# Altium schematic symbol library Библиотека элементов.SchLib: 117 symbols
Pins are listed as number, name and electrical type; pins without a type are passive.

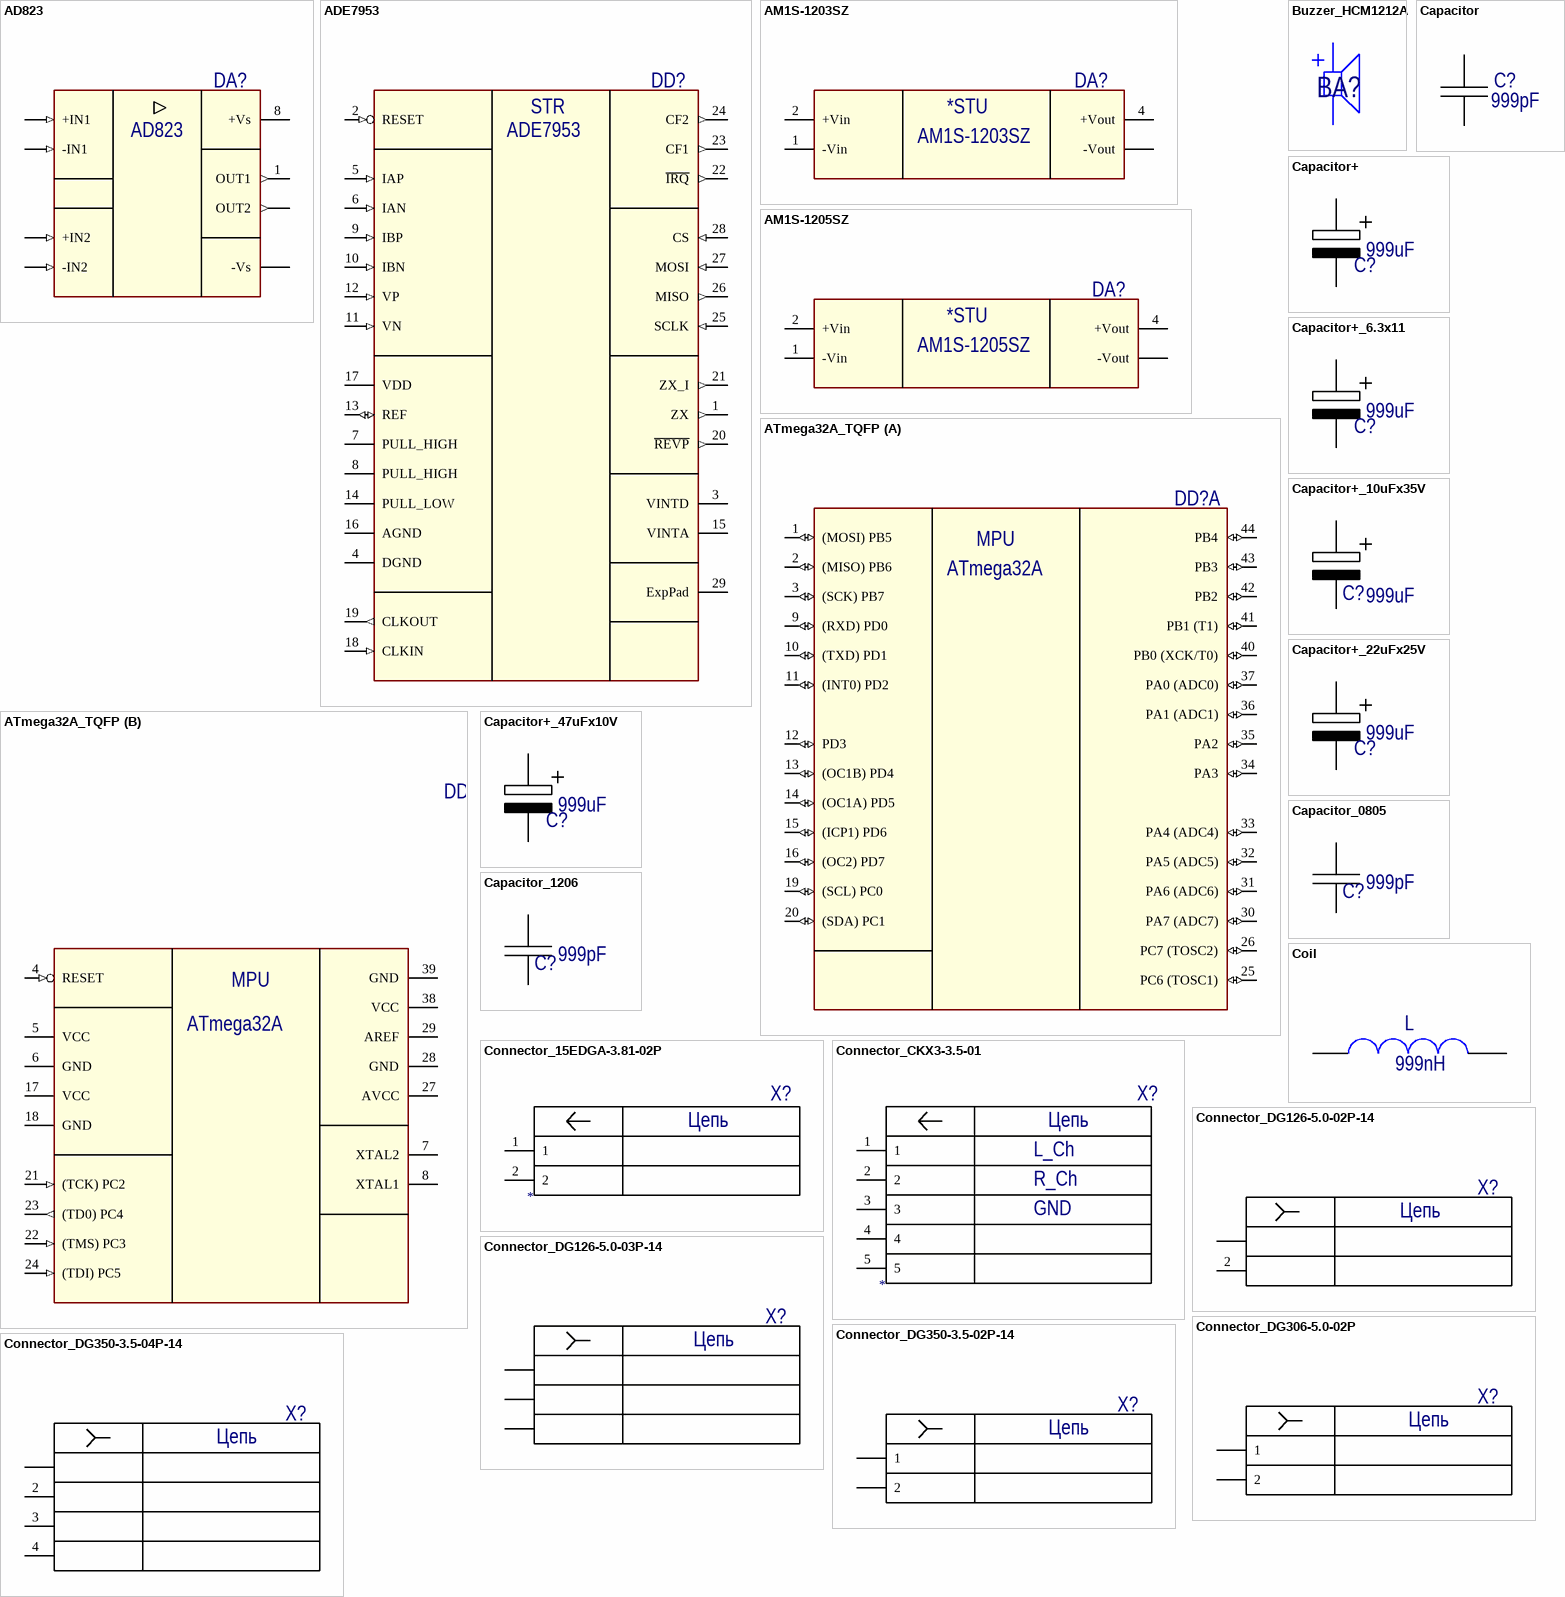
[diagram p0: symbols AD823 to Connector_DG350-3.5-04P-14]

## AD823
designator DA?  (value not drawn)
footprint AD823_SOIC8
pins: 1 OUT1 (out), 2 -IN1 (in), 3 +IN1 (in), 4 -Vs (power), 5 +IN2 (in), 6 -IN2 (in), 7 OUT2 (out), 8 +Vs (power)

## ADE7953
designator DD?  (value not drawn)
footprint PQFN-28 (For ADE7953, pack LFCSP-WQ)
pins: 1 ZX (out), 2 RESET (in), 3 VINTD, 4 DGND (power), 5 IAP (in), 6 IAN (in), 7 PULL_HIGH (power), 8 PULL_HIGH (power), 9 IBP (in), 10 IBN (in), 11 VN (in), 12 VP (in), 13 REF (io), 14 PULL_LOW (power), 15 VINTA, 16 AGND (power), 17 VDD (power), 18 CLKIN (in), 19 CLKOUT (out), 20 ~{REVP} (out), 21 ZX_I (out), 22 ~{IRQ} (out), 23 CF1 (out), 24 CF2 (out), 25 SCLK (in), 26 MISO (out), 27 MOSI (in), 28 CS (in), 29 ExpPad (power)
text: STR

## AM1S-1203SZ
designator DA?  (value not drawn)
DC-DC converter (12V - 3.3V)
footprint AM1S-Z series (DC-DC converter (1 Watt ))
pins: 1 -Vin (power), 2 +Vin (power), 3 -Vout (power), 4 +Vout (power)
1 alternate drawing of the same symbol
text: *STU

## AM1S-1205SZ
designator DA?  (value not drawn)
DC-DC converter (12V - 5.0V)
footprint AM1S-Z series (DC-DC converter (1 Watt ))
pins: 1 -Vin (power), 2 +Vin (power), 3 -Vout (power), 4 +Vout (power)
1 alternate drawing of the same symbol
text: *STU

## ATmega32A_TQFP
designator DD?  (value not drawn)
footprint ATmega32A_TQFP44
part A pins: 1 (MOSI) PB5 (io), 2 (MISO) PB6 (io), 3 (SCK) PB7 (io), 9 (RXD) PD0 (io), 10 (TXD) PD1 (io), 11 (INT0) PD2 (io), 12 PD3 (io), 13 (OC1B) PD4 (io), 14 (OC1A) PD5 (io), 15 (ICP1) PD6 (io), 16 (OC2) PD7 (io), 19 (SCL) PC0 (io), 20 (SDA) PC1 (io), 25 PC6 (TOSC1) (io), 26 PC7 (TOSC2) (io), 30 PA7 (ADC7) (io), 31 PA6 (ADC6) (io), 32 PA5 (ADC5) (io), 33 PA4 (ADC4) (io), 34 PA3 (io), 35 PA2 (io), 36 PA1 (ADC1) (io), 37 PA0 (ADC0) (io), 40 PB0 (XCK/T0) (io), 41 PB1 (T1) (io), 42 PB2 (io), 43 PB3 (io), 44 PB4 (io)
part B pins: 4 RESET (in), 5 VCC (power), 6 GND (power), 7 XTAL2, 8 XTAL1, 17 VCC (power), 18 GND (power), 21 (TCK) PC2 (in), 22 (TMS) PC3 (in), 23 (TD0) PC4 (out), 24 (TDI) PC5 (in), 27 AVCC (power), 28 GND (power), 29 AREF (power), 38 VCC (power), 39 GND (power)
part A text: MPU; ATmega32A
part B text: MPU; ATmega32A

## Buzzer_HCM1212A
designator BA?  (value not drawn)
footprint Buzzer_HCM1212A
pins: 1, 2

## Capacitor
designator C?, comment 999pF
footprint Capacitor_0805
pins: 1, 2

## Capacitor+
designator C?, comment 999uF
pins: 1, 2

## Capacitor+_6.3x11
designator C?, comment 999uF
footprint Capacitor_Electrolit_6.3x11
pins: 1, 2

## Capacitor+_10uFx35V
designator С?, comment 999uF
footprint Capacitor+_10uFx35V
pins: 1, 2

## Capacitor+_22uFx25V
designator C?, comment 999uF
footprint CAPACITOR+_22uFx25V
pins: 1, 2

## Capacitor+_47uFx10V
designator C?, comment 999uF
footprint CAPACITOR+_47uFx10V
pins: 1, 2

## Capacitor_0805
designator C?, comment 999pF
footprint Capacitor_0805
pins: 1, 2

## Capacitor_1206
designator C?, comment 999pF
footprint CAPACITOR_1206 (Chip Capacitor, 2-Leads, Body 3,10x1,60mm, IPC Medium Density)
pins: 1, 2

## Coil
designator L, comment 999nH
pins: 1, 2

## Connector_15EDGA-3.81-02P
designator X?
footprint CONNECTOR_15EDGA-3.81-02P
pins: 1, 2
text: Цепь

## Connector_CKX3-3.5-01
designator X?
footprint Connector_CKX3-3.5-01 (Audio Jack 3.5mm)
pins: 1, 2, 3, 4, 5
text: Цепь; L_Ch; R_Ch; GND

## Connector_DG126-5.0-02P-14
designator X?  (value not drawn)
footprint Connector_DG126-02P-14
pins: 1, 2
text: Цепь

## Connector_DG126-5.0-03P-14
designator X?, comment DG126-5.0-03P-14  (value not drawn)
footprint Connector_DG126-03P-14
pins: 1, 2, 3
text: Цепь

## Connector_DG306-5.0-02P
designator X?  (value not drawn)
footprint CONNECTOR_DG306-5.0-02P
pins: 1, 2
text: Цепь

## Connector_DG350-3.5-02P-14
designator X?  (value not drawn)
footprint CONNECTOR_DG350-3.5-02P-14
pins: 1, 2
text: Цепь

## Connector_DG350-3.5-04P-14
designator X?, comment DG350-3.5-04P-14  (value not drawn)
footprint CONNECTOR_DG350-3.5-04P-14
pins: 1, 2, 3, 4
text: Цепь

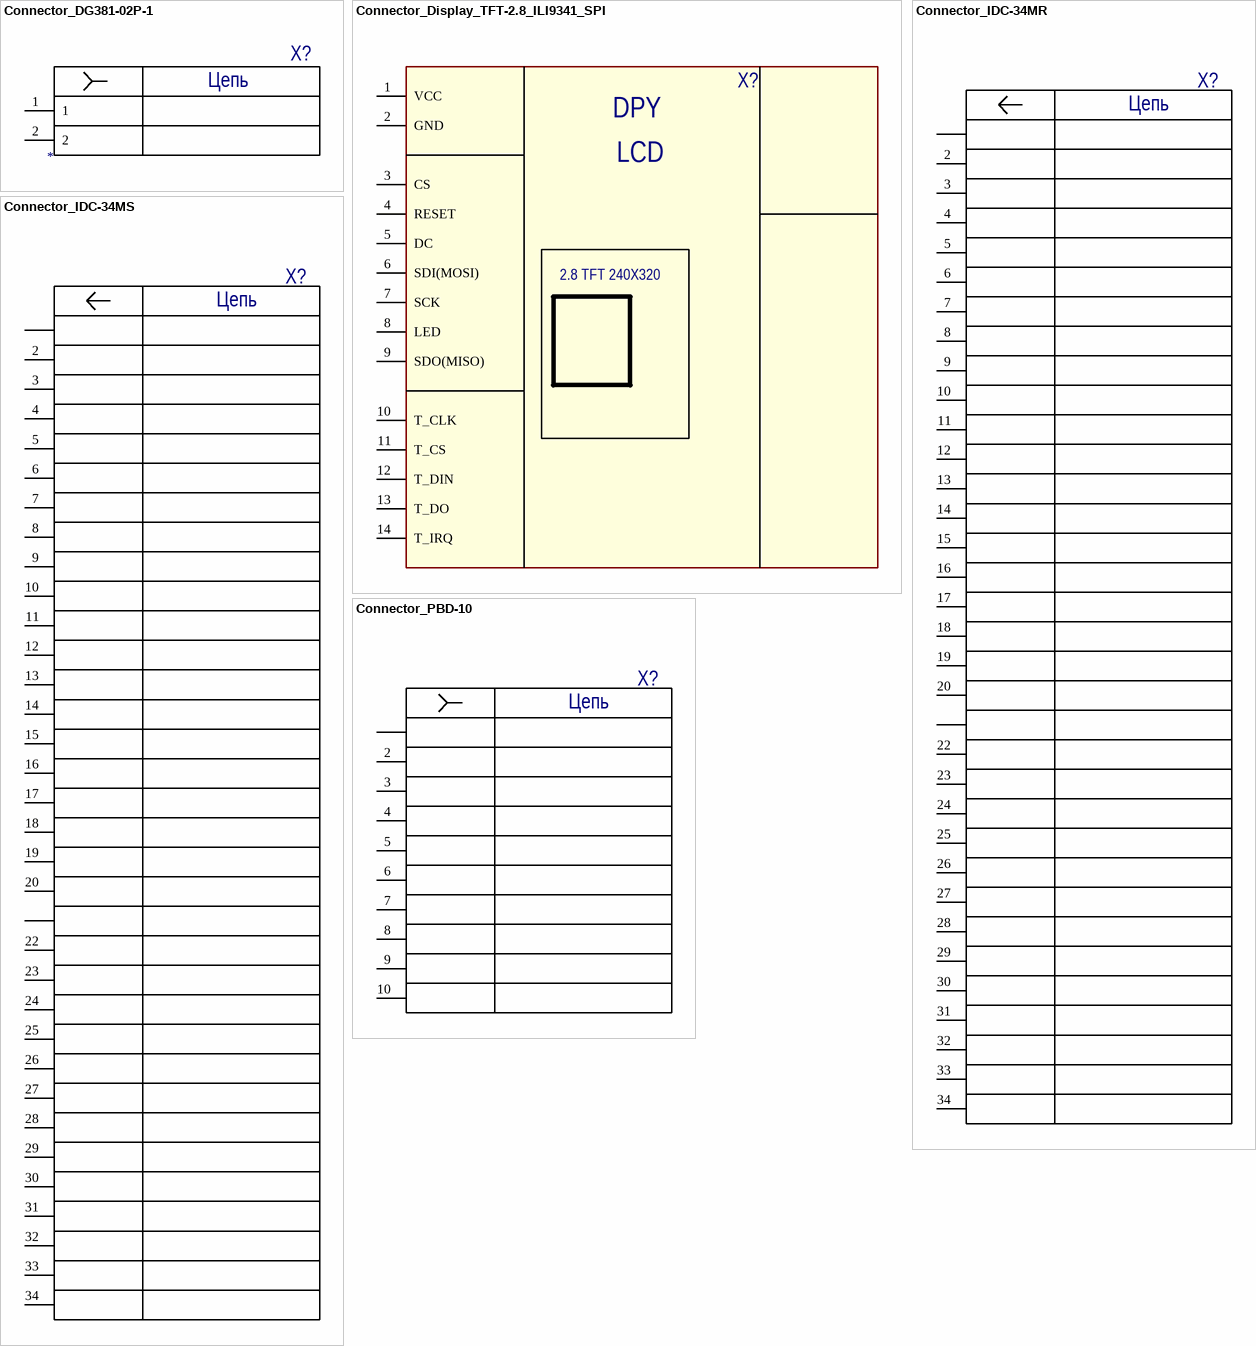
[diagram p1: symbols Connector_DG381-02P-1 to Connector_PBD-10]

## Connector_DG381-02P-1
designator X?
footprint CONNECTOR_DG381-02P-1
pins: 1, 2
text: Цепь

## Connector_Display_TFT-2.8_ILI9341_SPI
designator X?, comment DPY  (value not drawn)
footprint CONNECTOR_PBS-14
pins: 1 VCC, 2 GND, 3 CS, 4 RESET, 5 DC, 6 SDI(MOSI), 7 SCK, 8 LED, 9 SDO(MISO), 10 T_CLK, 11 T_CS, 12 T_DIN, 13 T_DO, 14 T_IRQ
text: LCD; 2.8 TFT 240X320

## Connector_IDC-34MR
designator X?  (value not drawn)
footprint CONNECTOR_IDC-34
pins: 1, 2, 3, 4, 5, 6, 7, 8, 9, 10, 11, 12, 13, 14, 15, 16, 17, 18, 19, 20, 21, 22, 23, 24, 25, 26, 27, 28, 29, 30, 31, 32, 33, 34
text: Цепь

## Connector_IDC-34MS
designator X?  (value not drawn)
footprint CONNECTOR_IDC-34MS
pins: 1, 2, 3, 4, 5, 6, 7, 8, 9, 10, 11, 12, 13, 14, 15, 16, 17, 18, 19, 20, 21, 22, 23, 24, 25, 26, 27, 28, 29, 30, 31, 32, 33, 34
text: Цепь

## Connector_PBD-10
designator X?  (value not drawn)
footprint CONNECTOR_PBD-10
pins: 1, 2, 3, 4, 5, 6, 7, 8, 9, 10
text: Цепь

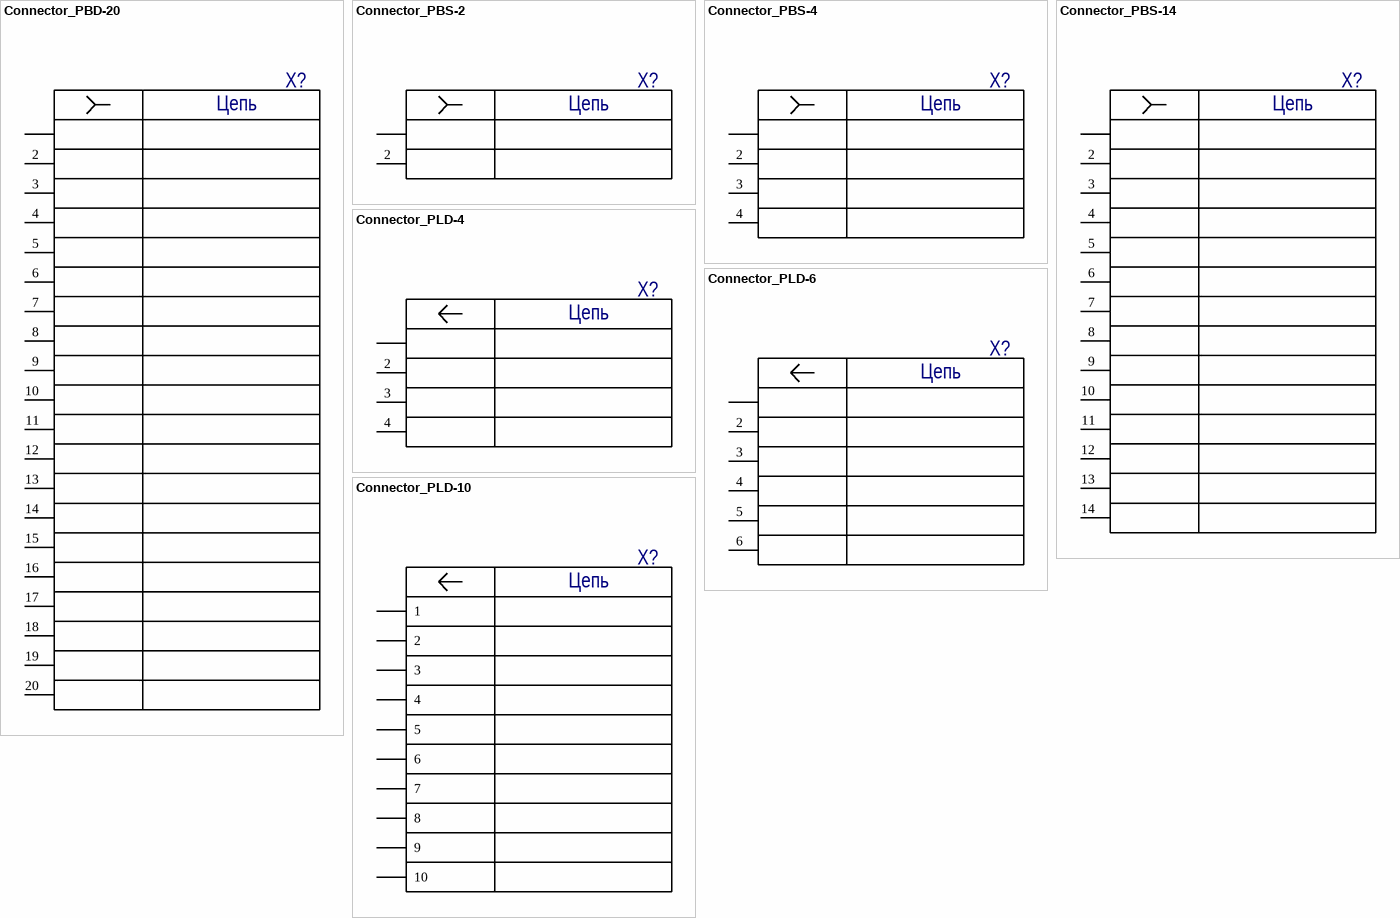
[diagram p2: symbols Connector_PBD-20 to Connector_PLD-10]

## Connector_PBD-20
designator X?  (value not drawn)
footprint CONNECTOR_PBD-20
pins: 1, 2, 3, 4, 5, 6, 7, 8, 9, 10, 11, 12, 13, 14, 15, 16, 17, 18, 19, 20
text: Цепь

## Connector_PBS-2
designator X?  (value not drawn)
footprint CONNECTOR_PBS-2
pins: 1, 2
text: Цепь

## Connector_PBS-4
designator X?  (value not drawn)
footprint CONNECTOR_PBS-4
pins: 1, 2, 3, 4
text: Цепь

## Connector_PBS-14
designator X?  (value not drawn)
footprint CONNECTOR_PBS-14
pins: 1, 2, 3, 4, 5, 6, 7, 8, 9, 10, 11, 12, 13, 14
text: Цепь

## Connector_PLD-4
designator X?  (value not drawn)
footprint CONNECTOR_PLD-4
pins: 1, 2, 3, 4
text: Цепь

## Connector_PLD-6
designator X?  (value not drawn)
footprint CONNECTOR_PLD-6
pins: 1, 2, 3, 4, 5, 6
text: Цепь

## Connector_PLD-10
designator X?  (value not drawn)
footprint CONNECTOR_PLD-10
pins: 1, 2, 3, 4, 5, 6, 7, 8, 9, 10
text: Цепь

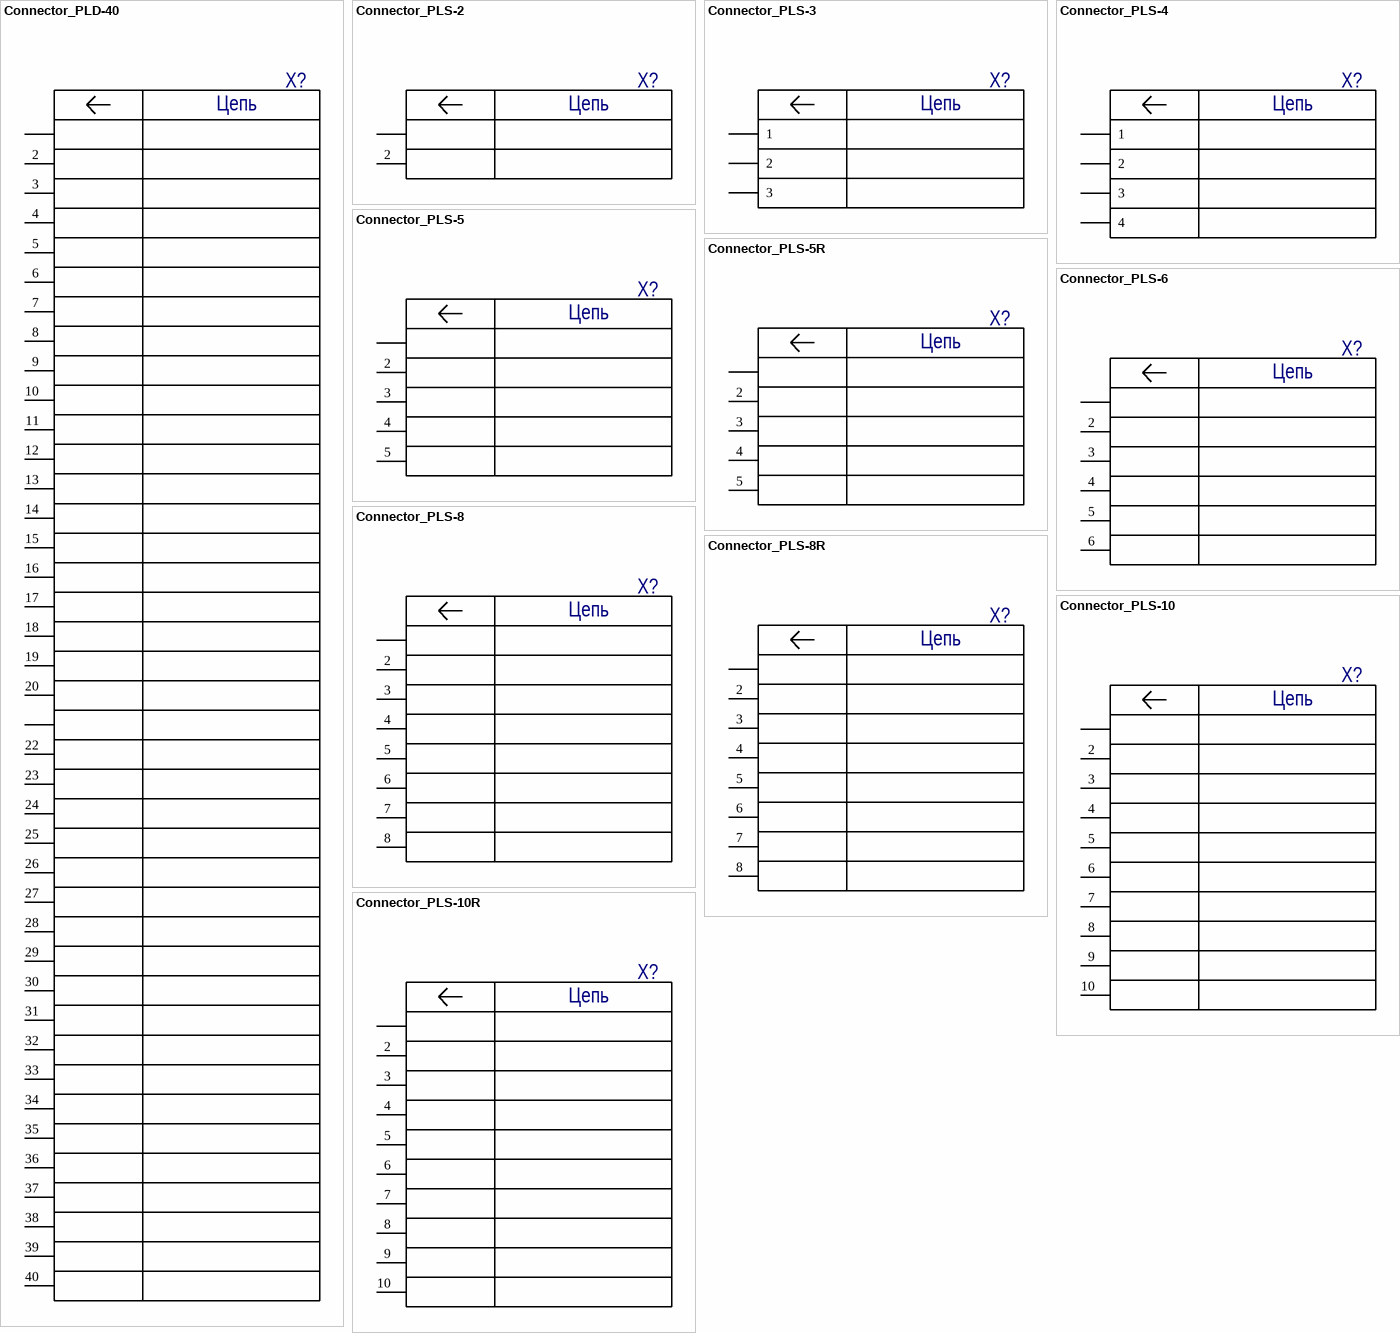
[diagram p3: symbols Connector_PLD-40 to Connector_PLS-10R]

## Connector_PLD-40
designator X?  (value not drawn)
footprint CONNECTOR_PLD-40
pins: 1, 2, 3, 4, 5, 6, 7, 8, 9, 10, 11, 12, 13, 14, 15, 16, 17, 18, 19, 20, 21, 22, 23, 24, 25, 26, 27, 28, 29, 30, 31, 32, 33, 34, 35, 36, 37, 38, 39, 40
text: Цепь

## Connector_PLS-2
designator X?  (value not drawn)
footprint CONNECTOR_PLS-2
pins: 1, 2
text: Цепь

## Connector_PLS-3
designator X?  (value not drawn)
footprint CONNECTOR_PLS-3
pins: 1, 2, 3
text: Цепь

## Connector_PLS-4
designator X?  (value not drawn)
footprint CONNECTOR_PLS-4
pins: 1, 2, 3, 4
text: Цепь

## Connector_PLS-5
designator X?  (value not drawn)
footprint CONNECTOR_PLS-5
pins: 1, 2, 3, 4, 5
text: Цепь

## Connector_PLS-5R
designator X?  (value not drawn)
footprint CONNECTOR_PLS-5R
pins: 1, 2, 3, 4, 5
text: Цепь

## Connector_PLS-6
designator X?  (value not drawn)
footprint CONNECTOR_PLS-6
pins: 1, 2, 3, 4, 5, 6
text: Цепь

## Connector_PLS-8
designator X?  (value not drawn)
footprint CONNECTOR_PLS-8
pins: 1, 2, 3, 4, 5, 6, 7, 8
text: Цепь

## Connector_PLS-8R
designator X?  (value not drawn)
footprint CONNECTOR_PLS-8
pins: 1, 2, 3, 4, 5, 6, 7, 8
text: Цепь

## Connector_PLS-10
designator X?  (value not drawn)
footprint CONNECTOR_PLS-10
pins: 1, 2, 3, 4, 5, 6, 7, 8, 9, 10
text: Цепь

## Connector_PLS-10R
designator X?  (value not drawn)
footprint CONNECTOR_PLS-10
pins: 1, 2, 3, 4, 5, 6, 7, 8, 9, 10
text: Цепь

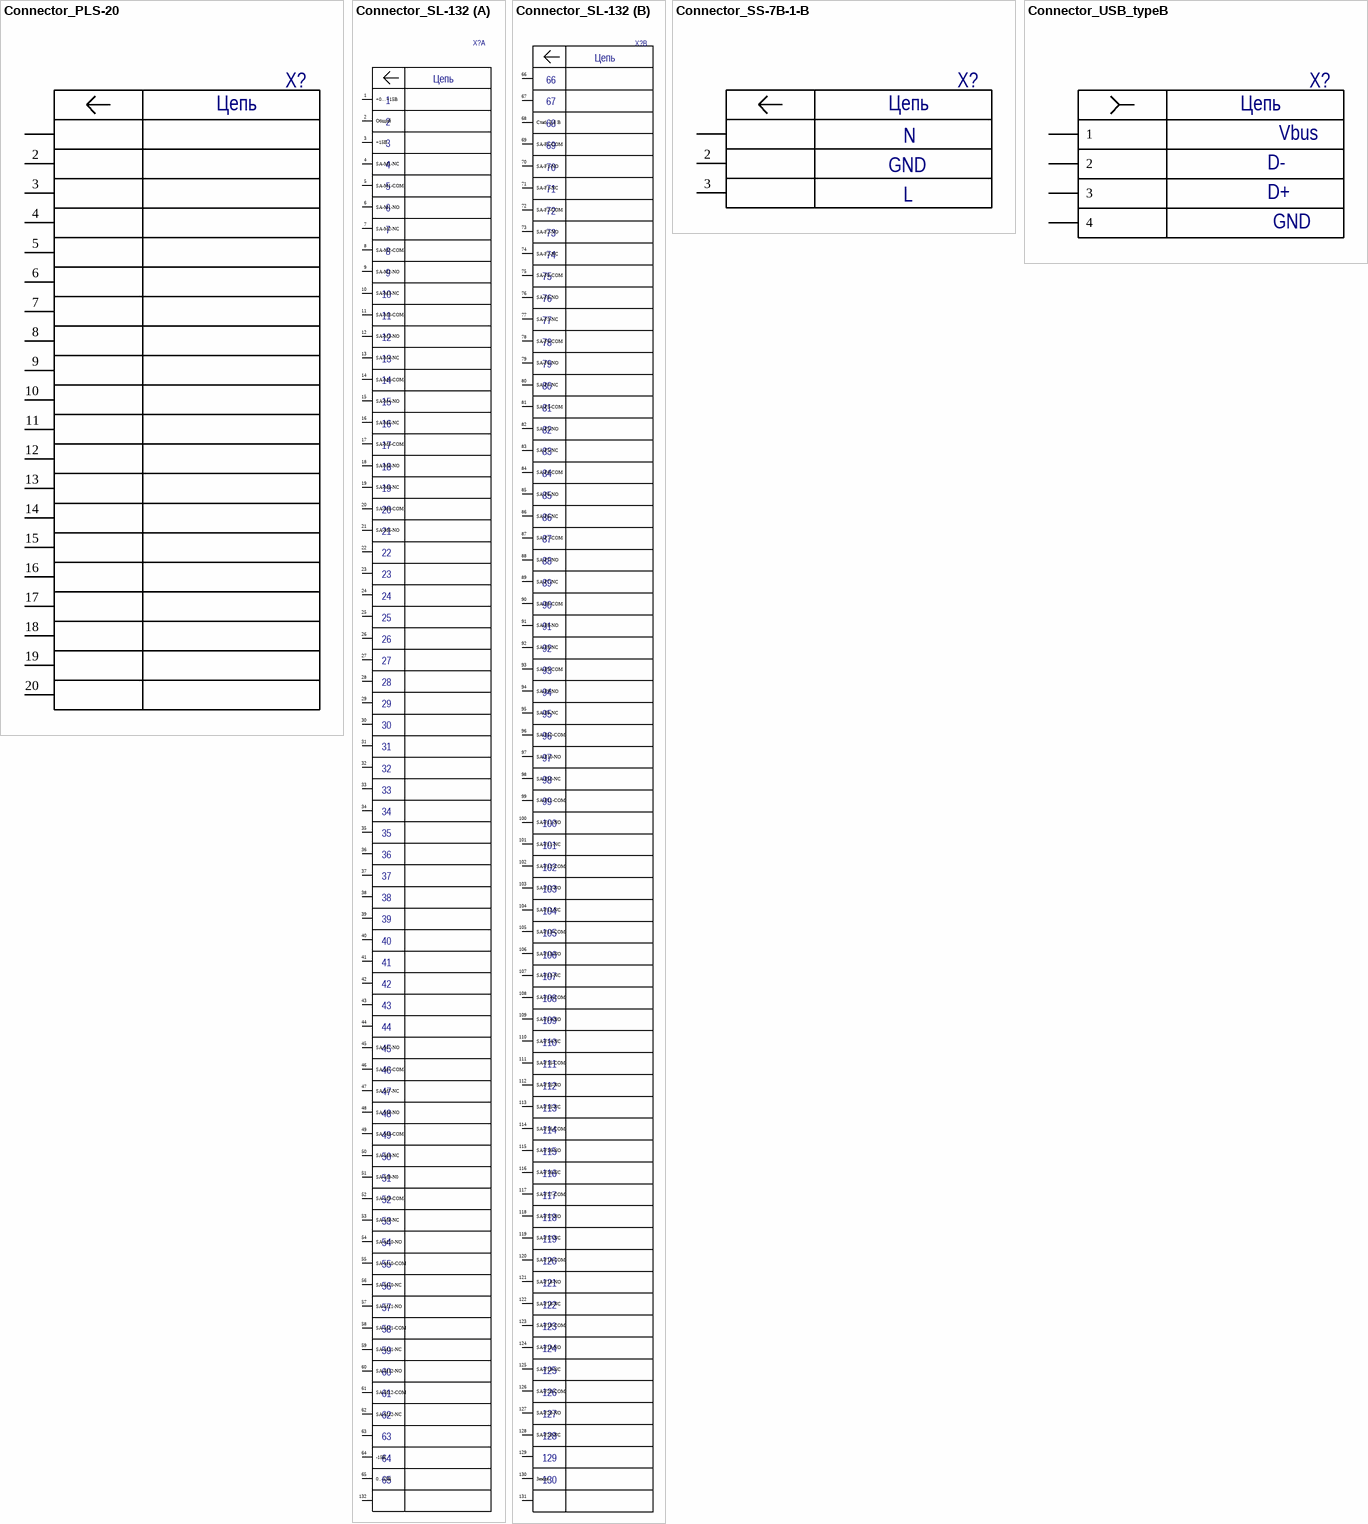
[diagram p4: symbols Connector_PLS-20 to Connector_USB_typeB]

## Connector_PLS-20
designator X?  (value not drawn)
footprint CONNECTOR_PLS-20
pins: 1, 2, 3, 4, 5, 6, 7, 8, 9, 10, 11, 12, 13, 14, 15, 16, 17, 18, 19, 20
text: Цепь

## Connector_SL-132
designator X?  (value not drawn)
footprint Connector_SL-132
part A pins: 1 +0…+15В, 2 Общий, 3 +15В, 4 SA-M1-NC, 5 SA-M1-COM, 6 SA-M1-NO, 7 SA-M2-NC, 8 SA-M2-COM, 9 SA-M2-NO, 10 SA-M3-NC, 11 SA-M3-COM, 12 SA-M3-NO, 13 SA-M4-NC, 14 SA-M4-COM, 15 SA-M4-NO, 16 SA-M5-NC, 17 SA-M5-COM, 18 SA-M5-NO, 19 SA-M6-NC, 20 SA-M6-COM, 21 SA-M6-NO, 22, 23, 24, 25, 26, 27, 28, 29, 30, 31, 32, 33, 34, 35, 36, 37, 38, 39, 40, 41, 42, 43, 44, 45 SA-M7-NO, 46 SA-M7-COM, 47 SA-M7-NC, 48 SA-M8-NO, 49 SA-M8-COM, 50 SA-M8-NC, 51 SA-M9-N0, 52 SA-M9-COM, 53 SA-M9-NC, 54 SA-M10-NO, 55 SA-M10-COM, 56 SA-M10-NC, 57 SA-M11-NO, 58 SA-M11-COM, 59 SA-M11-NC, 60 SA-M12-NO, 61 SA-M12-COM, 62 SA-M12-NC, 63, 64 -15В, 65 0..-15В, 132
part B pins: 66 1, 67 2, 68 Стаб. 5,6 В, 69 SA-F1-COM, 70 SA-F1-NO, 71 SA-F1-NC, 72 SA-F2-COM, 73 SA-F2-NO, 74 SA-F2-NC, 75 SA-F3-COM, 76 SA-F3-NO, 77 SA-F3-NC, 78 SA-F4-COM, 79 SA-F4-NO, 80 SA-F4-NC, 81 SA-F5-COM, 82 SA-F5-NO, 83 SA-F5-NC, 84 SA-F6-COM, 85 SA-F6-NO, 86 SA-F6-NC, 87 SA-F7-COM, 88 SA-F7-NO, 89 SA-F7-NC, 90 SA-F8-COM, 91 SA-F8-NO, 92 SA-F8-NC, 93 SA-F9-COM, 94 SA-F9-NO, 95 SA-F9-NC, 96 SA-F10-COM, 97 SA-F10-NO, 98 SA-F10-NC, 99 SA-F11-COM, 100 SA-F11-NO, 101 SA-F11-NC, 102 SA-F12-COM, 103 SA-F12-NO, 104 SA-F12-NC, 105 SA-F13-COM, 106 SA-F13-NO, 107 SA-F13-NC, 108 SA-F14-COM, 109 SA-F14-NO, 110 SA-F14-NC, 111 SA-F15-COM, 112 SA-F15-NO, 113 SA-F15-NC, 114 SA-F16-COM, 115 SA-F16-NO, 116 SA-F16-NC, 117 SA-F17-COM, 118 SA-F17-NO, 119 SA-F17-NC, 120 SA-F18-COM, 121 SA-F18-NO, 122 SA-F18-NC, 123 SA-F19-COM, 124 SA-F19-NO, 125 SA-F19-NC, 126 SA-F20-COM, 127 SA-F20-NO, 128 SA-F20-NC, 129, 130 Земля, 131
part A text: Цепь
part B text: Цепь

## Connector_SS-7B-1-B
designator X?  (value not drawn)
footprint Connector_SS-7B-1-B
pins: 1, 2, 3
text: Цепь; N; GND; L

## Connector_USB_typeB
designator X?  (value not drawn)
footprint Connector_USB_B
pins: 1, 2, 3, 4
text: Цепь; Vbus; D-; D+; GND

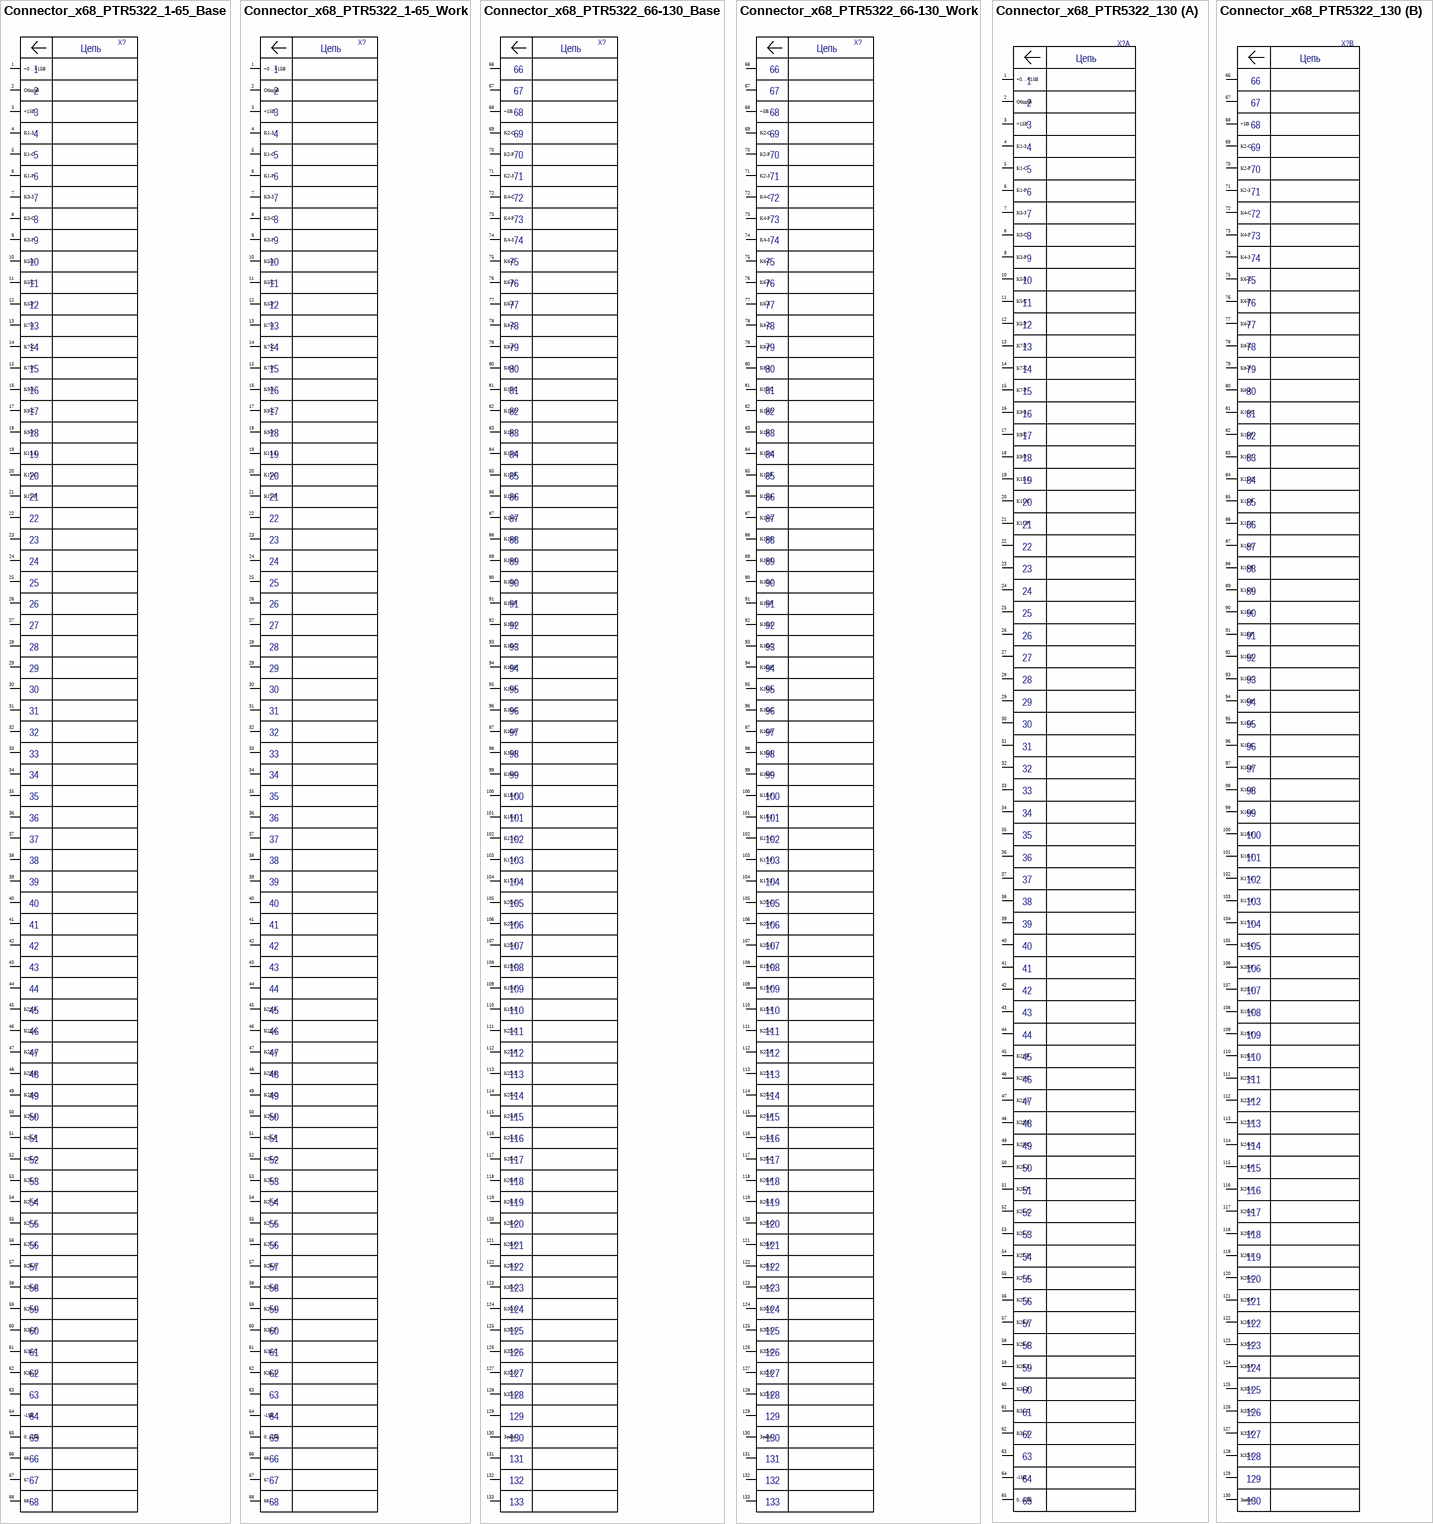
[diagram p5: symbols Connector_x68_PTR5322_1-65_Base to Connector_x68_PTR5322_130]

## Connector_x68_PTR5322_1-65_Base
designator X?  (value not drawn)
footprint Connector_Padsx68_PTR5322_1-65_BASE
pins: 1 +0…+15В, 2 Общий, 3 +15В, 4 К1-З, 5 К1-С, 6 К1-Р, 7 К3-З, 8 К3-С, 9 К3-Р, 10 К5-З, 11 К5-С, 12 К5-Р, 13 К7-З, 14 К7-С, 15 К7-Р, 16 К9-З, 17 К9-С, 18 К9-Р, 19 К11-З, 20 К11-С, 21 К11-Р, 22, 23, 24, 25, 26, 27, 28, 29, 30, 31, 32, 33, 34, 35, 36, 37, 38, 39, 40, 41, 42, 43, 44, 45 К21-Р, 46 К21-С, 47 К21-З, 48 К23-Р, 49 К23-С, 50 К23-З, 51 К25-Р, 52 К25-С, 53 К25-З, 54 К27-Р, 55 К27-С, 56 К27-З, 57 К29-Р, 58 К29-C, 59 К29-З, 60 К31-Р, 61 К31-С, 62 К31-З, 63, 64 -15В, 65 0..-15В, 66, 67, 68
text: Цепь

## Connector_x68_PTR5322_1-65_Work
designator X?  (value not drawn)
footprint Connector_Padsx68_PTR5322_1-65_WORK
pins: 1 +0…+15В, 2 Общий, 3 +15В, 4 К1-З, 5 К1-С, 6 К1-Р, 7 К3-З, 8 К3-С, 9 К3-Р, 10 К5-З, 11 К5-С, 12 К5-Р, 13 К7-З, 14 К7-С, 15 К7-Р, 16 К9-З, 17 К9-С, 18 К9-Р, 19 К11-З, 20 К11-С, 21 К11-Р, 22, 23, 24, 25, 26, 27, 28, 29, 30, 31, 32, 33, 34, 35, 36, 37, 38, 39, 40, 41, 42, 43, 44, 45 К21-Р, 46 К21-С, 47 К21-З, 48 К23-Р, 49 К23-С, 50 К23-З, 51 К25-Р, 52 К25-С, 53 К25-З, 54 К27-Р, 55 К27-С, 56 К27-З, 57 К29-Р, 58 К29-C, 59 К29-З, 60 К31-Р, 61 К31-С, 62 К31-З, 63, 64 -15В, 65 0..-15В, 66, 67, 68
text: Цепь

## Connector_x68_PTR5322_66-130_Base
designator X?  (value not drawn)
footprint Connector_Padsx68_PTR5322_66-130_BASE
pins: 66 1, 67 2, 68 +5В, 69 К2-С, 70 К2-Р, 71 К2-З, 72 К4-С, 73 К4-Р, 74 К4-З, 75 К6-С, 76 К6-Р, 77 К6-З, 78 К8-С, 79 К8-Р, 80 К8-З, 81 К10-С, 82 К10-Р, 83 К10-З, 84 К12-С, 85 К12-Р, 86 К12-З, 87 К14-С, 88 К14-Р, 89 К14-З, 90 К13-С, 91 К13-Р, 92 К13-З, 93 К16-С, 94 К16-Р, 95 К16-З, 96 К15-С, 97 К15-Р, 98 К15-З, 99 К18-С, 100 К18-Р, 101 К18-З, 102 К17-С, 103 К17-Р, 104 К17-З, 105 К20-С, 106 К20-Р, 107 К20-З, 108 К19-С, 109 К19-Р, 110 К19-З, 111 К22-С, 112 К22-Р, 113 К22-З, 114 К24-С, 115 К24-Р, 116 К24-З, 117 К26-С, 118 К26-Р, 119 К26-З, 120 К28-С, 121 К28-Р, 122 К28-З, 123 К30-С, 124 К30-Р, 125 К30-З, 126 К32-С, 127 К32-Р, 128 К32-З, 129, 130 Земля, 131, 132, 133
text: Цепь

## Connector_x68_PTR5322_66-130_Work
designator X?  (value not drawn)
footprint Connector_Padsx68_PTR5322_66-130_WORK
pins: 66 1, 67 2, 68 +5В, 69 К2-С, 70 К2-Р, 71 К2-З, 72 К4-С, 73 К4-Р, 74 К4-З, 75 К6-С, 76 К6-Р, 77 К6-З, 78 К8-С, 79 К8-Р, 80 К8-З, 81 К10-С, 82 К10-Р, 83 К10-З, 84 К12-С, 85 К12-Р, 86 К12-З, 87 К14-С, 88 К14-Р, 89 К14-З, 90 К13-С, 91 К13-Р, 92 К13-З, 93 К16-С, 94 К16-Р, 95 К16-З, 96 К15-С, 97 К15-Р, 98 К15-З, 99 К18-С, 100 К18-Р, 101 К18-З, 102 К17-С, 103 К17-Р, 104 К17-З, 105 К20-С, 106 К20-Р, 107 К20-З, 108 К19-С, 109 К19-Р, 110 К19-З, 111 К22-С, 112 К22-Р, 113 К22-З, 114 К24-С, 115 К24-Р, 116 К24-З, 117 К26-С, 118 К26-Р, 119 К26-З, 120 К28-С, 121 К28-Р, 122 К28-З, 123 К30-С, 124 К30-Р, 125 К30-З, 126 К32-С, 127 К32-Р, 128 К32-З, 129, 130 Земля, 131, 132, 133
text: Цепь

## Connector_x68_PTR5322_130
designator X?  (value not drawn)
footprint Connector_Basex130
part A pins: 1 +0…+15В, 2 Общий, 3 +15В, 4 К1-З, 5 К1-С, 6 К1-Р, 7 К3-З, 8 К3-С, 9 К3-Р, 10 К5-З, 11 К5-С, 12 К5-Р, 13 К7-З, 14 К7-С, 15 К7-Р, 16 К9-З, 17 К9-С, 18 К9-Р, 19 К11-З, 20 К11-С, 21 К11-Р, 22, 23, 24, 25, 26, 27, 28, 29, 30, 31, 32, 33, 34, 35, 36, 37, 38, 39, 40, 41, 42, 43, 44, 45 К21-Р, 46 К21-С, 47 К21-З, 48 К23-Р, 49 К23-С, 50 К23-З, 51 К25-Р, 52 К25-С, 53 К25-З, 54 К27-Р, 55 К27-С, 56 К27-З, 57 К29-Р, 58 К29-C, 59 К29-З, 60 К31-Р, 61 К31-С, 62 К31-З, 63, 64 -15В, 65 0..-15В
part B pins: 66 1, 67 2, 68 +5В, 69 К2-С, 70 К2-Р, 71 К2-З, 72 К4-С, 73 К4-Р, 74 К4-З, 75 К6-С, 76 К6-Р, 77 К6-З, 78 К8-С, 79 К8-Р, 80 К8-З, 81 К10-С, 82 К10-Р, 83 К10-З, 84 К12-С, 85 К12-Р, 86 К12-З, 87 К14-С, 88 К14-Р, 89 К14-З, 90 К13-С, 91 К13-Р, 92 К13-З, 93 К16-С, 94 К16-Р, 95 К16-З, 96 К15-С, 97 К15-Р, 98 К15-З, 99 К18-С, 100 К18-Р, 101 К18-З, 102 К17-С, 103 К17-Р, 104 К17-З, 105 К20-С, 106 К20-Р, 107 К20-З, 108 К19-С, 109 К19-Р, 110 К19-З, 111 К22-С, 112 К22-Р, 113 К22-З, 114 К24-С, 115 К24-Р, 116 К24-З, 117 К26-С, 118 К26-Р, 119 К26-З, 120 К28-С, 121 К28-Р, 122 К28-З, 123 К30-С, 124 К30-Р, 125 К30-З, 126 К32-С, 127 К32-Р, 128 К32-З, 129, 130 Земля
part A text: Цепь
part B text: Цепь

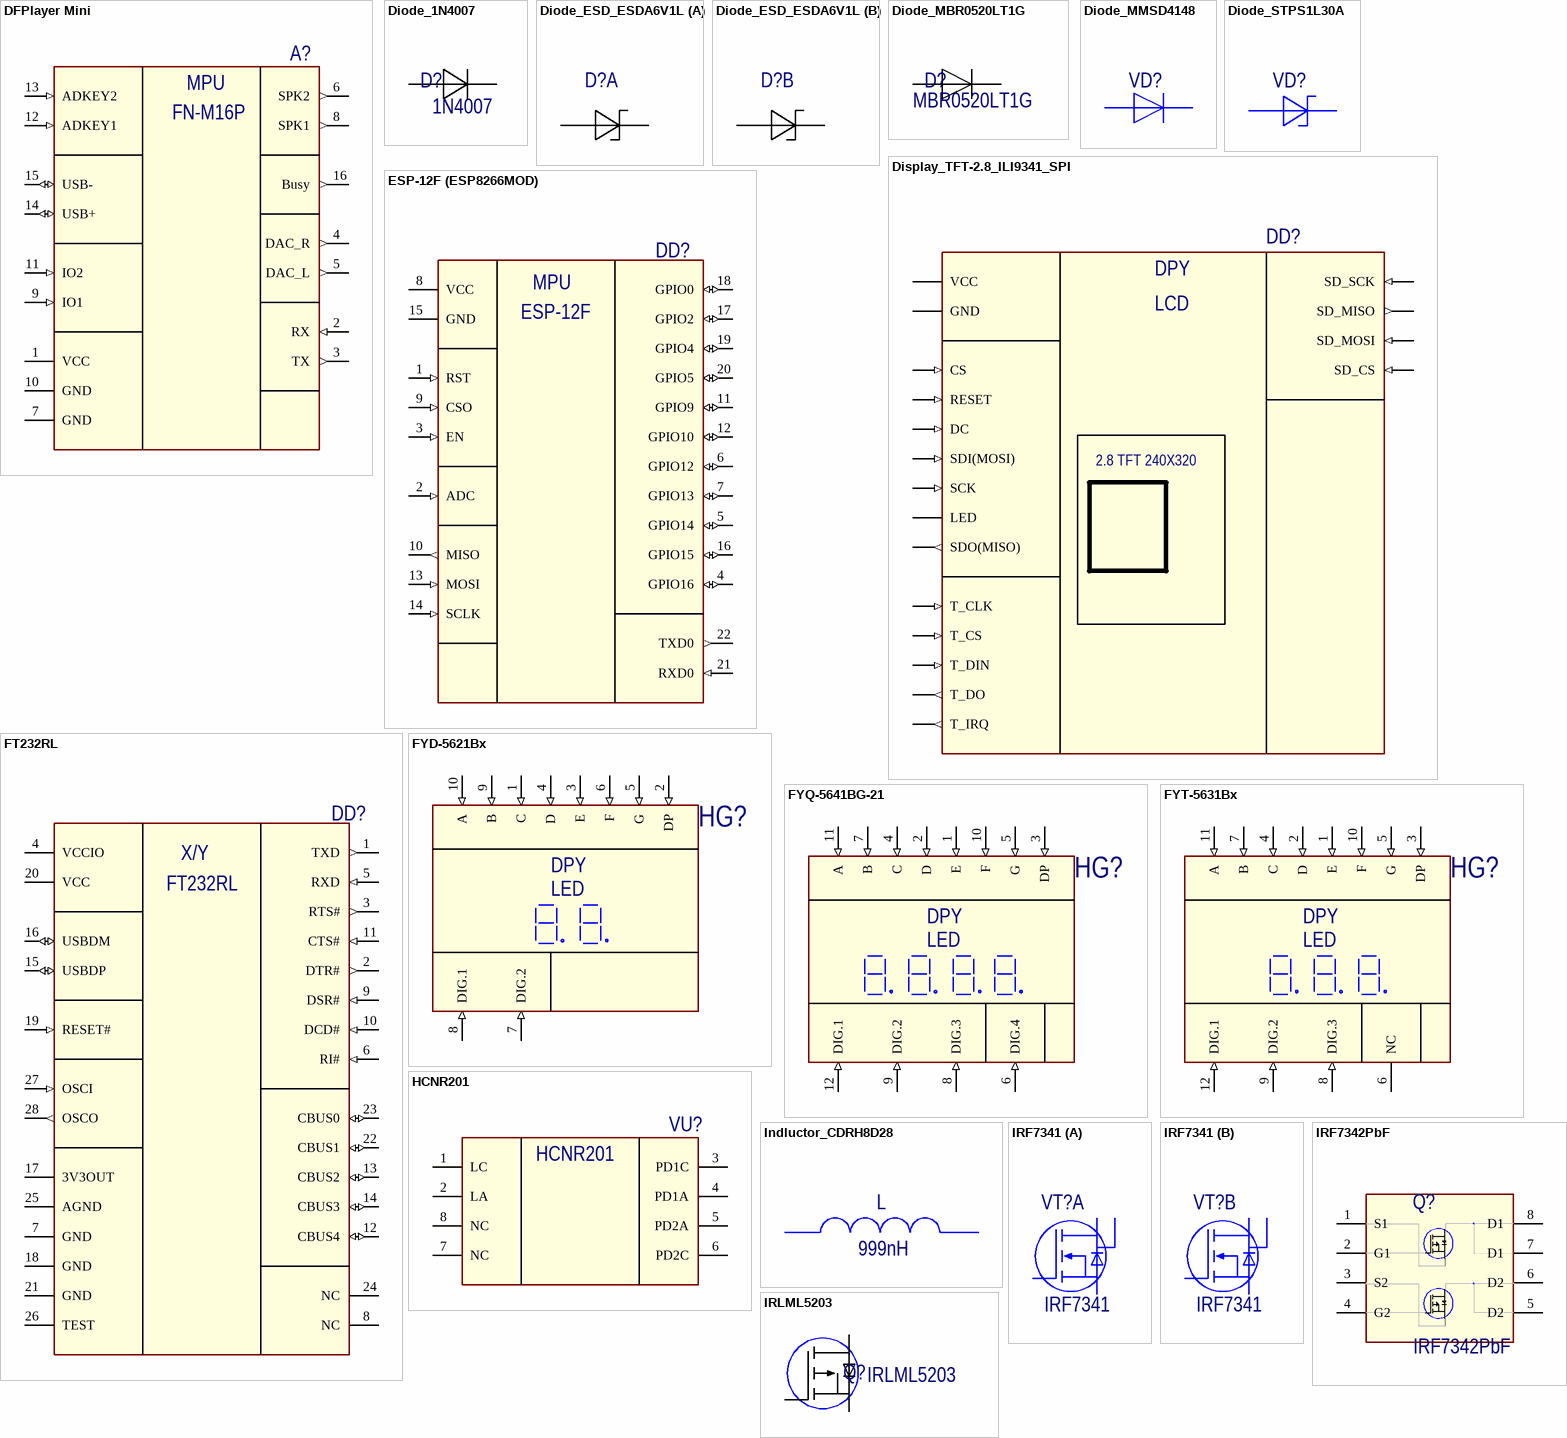
[diagram p6: symbols DFPlayer Mini to IRLML5203]

## DFPlayer Mini
designator A?, comment FN-M16P  (value not drawn)
footprint DFPlayer_Mini_Mp3 (DFPlayer_Mini_Mp3 (FN-M16P))
pins: 1 VCC (power), 2 RX (in), 3 TX (out), 4 DAC_R (out), 5 DAC_L (out), 6 SPK2 (out), 7 GND (power), 8 SPK1 (out), 9 IO1 (in), 10 GND, 11 IO2 (in), 12 ADKEY1 (in), 13 ADKEY2 (in), 14 USB+ (io), 15 USB- (io), 16 Busy (out)
text: MPU

## Diode_1N4007
designator D?, comment 1N4007
footprint 1N4007
pins: 1, 2

## Diode_ESD_ESDA6V1L
designator D?, comment ESDA6V1L  (value not drawn)
footprint ESDA6V1L-SOT23 (SOT23)
part A pins: 1, 3
part B pins: 2, 3

## Diode_MBR0520LT1G
designator D?, comment MBR0520LT1G
footprint Diode_MBR0520_AOD-123
pins: 1, 2

## Diode_MMSD4148
designator VD?, comment MMSD4148  (value not drawn)
footprint Diode_MMSD4148
pins: 1, 2

## Diode_STPS1L30A
designator VD?, comment STPS1L30A  (value not drawn)
footprint DIODE_STPS1L30A (Molded Diode, 2-Leads, Body 5,20x2,60mm, IPC Medium Density DIOM5226X27N)
pins: 1, 2

## Display_TFT-2.8_ILI9341_SPI
designator DD?, comment DPY  (value not drawn)
footprint Display_TFT-2.8_SPI_ILI9341
pins: 1 VCC (power), 2 GND (power), 3 CS (in), 4 RESET (in), 5 DC (in), 6 SDI(MOSI) (in), 7 SCK (in), 8 LED (power), 9 SDO(MISO) (out), 10 T_CLK (in), 11 T_CS (in), 12 T_DIN (in), 13 T_DO (out), 14 T_IRQ (out), 101 SD_CS (in), 102 SD_MOSI (in), 103 SD_MISO (out), 104 SD_SCK (in)
text: LCD; 2.8 TFT 240X320

## ESP-12F (ESP8266MOD)
designator DD?  (value not drawn)
footprint ESP-12F (ESP8266MOD)
pins: 1 RST (in), 2 ADC (in), 3 EN (in), 4 GPIO16 (io), 5 GPIO14 (io), 6 GPIO12 (io), 7 GPIO13 (io), 8 VCC (power), 9 CSO (in), 10 MISO (out), 11 GPIO9 (io), 12 GPIO10 (io), 13 MOSI (in), 14 SCLK (in), 15 GND (power), 16 GPIO15 (io), 17 GPIO2 (io), 18 GPIO0 (io), 19 GPIO4 (io), 20 GPIO5 (io), 21 RXD0 (in), 22 TXD0 (out)
text: MPU; ESP-12F

## FT232RL
designator DD?  (value not drawn)
footprint FT232RL
pins: 1 TXD (out), 2 DTR# (out), 3 RTS# (out), 4 VCCIO (power), 5 RXD (in), 6 RI# (in), 7 GND (power), 8 NC, 9 DSR# (in), 10 DCD# (in), 11 CTS# (in), 12 CBUS4 (io), 13 CBUS2 (io), 14 CBUS3 (io), 15 USBDP (io), 16 USBDM (io), 17 3V3OUT (power), 18 GND (power), 19 RESET# (in), 20 VCC (power), 21 GND (power), 22 CBUS1 (io), 23 CBUS0 (io), 24 NC, 25 AGND (power), 26 TEST (power), 27 OSCI (in), 28 OSCO (out)
text: X/Y

## FYD-5621Bx
designator HG?  (value not drawn)
footprint FYD-5621Bx
pins: 1 C (in), 2 DP (in), 3 E (in), 4 D (in), 5 G (in), 6 F (in), 7 DIG.2 (in), 8 DIG.1 (in), 9 B (in), 10 A (in)
text: DPY; LED

## FYQ-5641BG-21
designator HG?  (value not drawn)
footprint FYQ-5641BG-21
pins: 1 E (in), 2 D (in), 3 DP (in), 4 C (in), 5 G (in), 6 DIG.4 (in), 7 B (in), 8 DIG.3 (in), 9 DIG.2 (in), 10 F (in), 11 A (in), 12 DIG.1 (in)
text: DPY; LED

## FYT-5631Bx
designator HG?  (value not drawn)
footprint FYT-5631Bx
pins: 1 E (in), 2 D (in), 3 DP (in), 4 C (in), 5 G (in), 6 NC, 7 B (in), 8 DIG.3 (in), 9 DIG.2 (in), 10 F (in), 11 A (in), 12 DIG.1 (in)
text: DPY; LED

## HCNR201
designator VU?  (value not drawn)
footprint DIP-8 Widebody
pins: 1 LC, 2 LA, 3 PD1C, 4 PD1A, 5 PD2A, 6 PD2C, 7 NC, 8 NC

## Indluctor_CDRH8D28
designator L, comment 999nH
footprint INDUCTOR_CDRH8D28 (Precision Wire Wound Inductor, 2-Leads, Body 8,00x8,00mm, IPC Medium Density, INDP8080X30N)
pins: 1, 2

## IRF7341
designator VT?
footprint IRF7341_SO-8/SOIC-8
part A pins: 1, 2, 7, 8
part B pins: 3, 4, 5, 6

## IRF7342PbF
designator Q?
footprint IRF7342PbF_SO-8/SOIC-8
pins: 1 S1, 2 G1, 3 S2, 4 G2, 5 D2, 6 D2, 7 D1, 8 D1

## IRLML5203
designator Q?
pins: 1, 2, 3

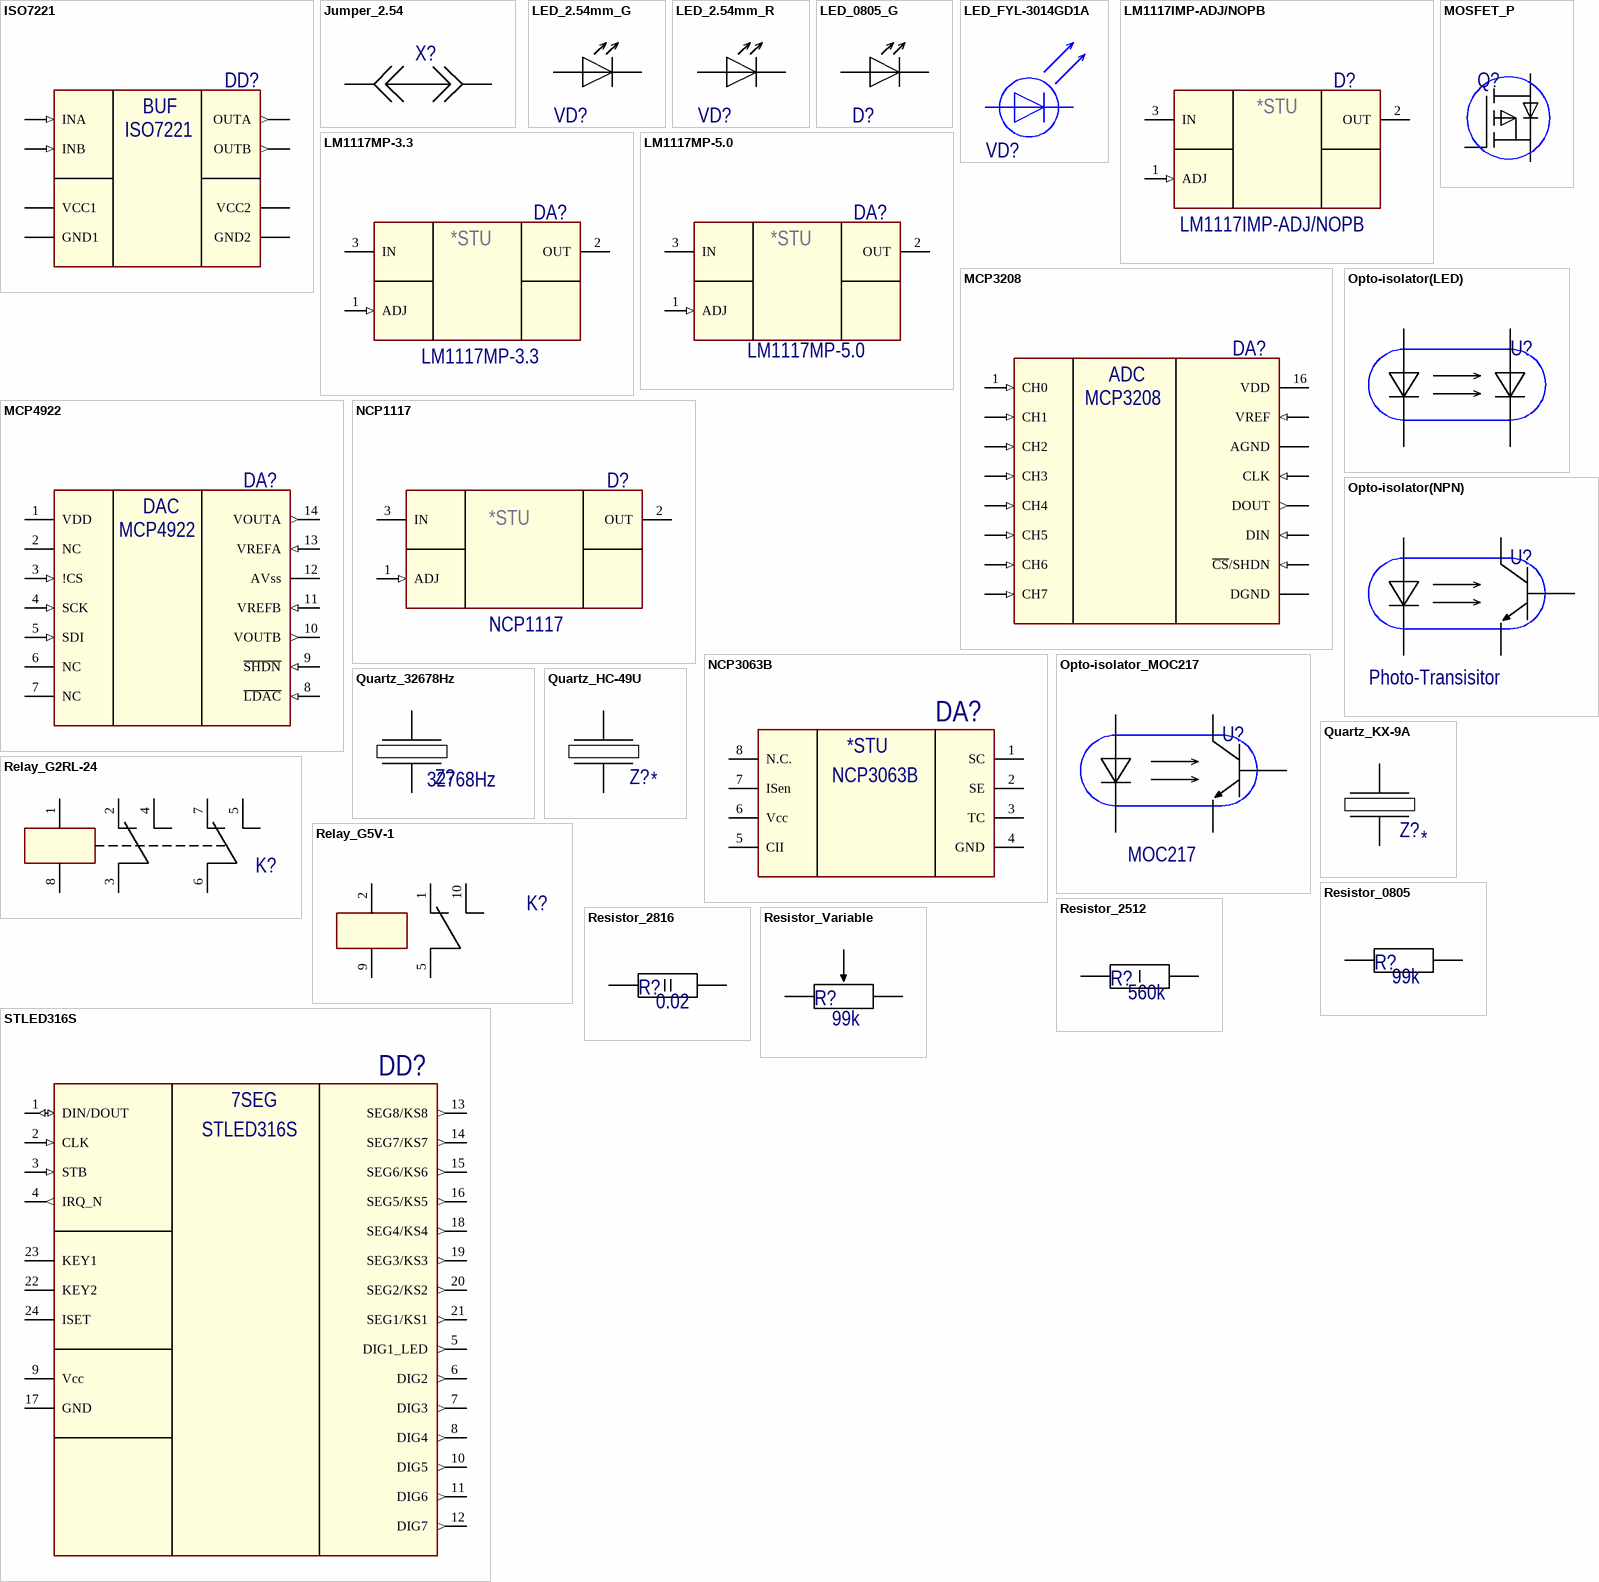
[diagram p7: symbols ISO7221 to STLED316S]

## ISO7221
designator DD?  (value not drawn)
footprint ISO7221 (SOIC, 8-Leads, Body 4,90x3,90mm, Pitch 1,27mm, IPC Medium Density)
pins: 1 VCC1 (power), 2 OUTA (out), 3 INB (in), 4 GND1 (power), 5 GND2 (power), 6 OUTB (out), 7 INA (in), 8 VCC2 (power)
text: BUF

## Jumper_2.54
designator X?  (value not drawn)
footprint CONNECTOR_PLS-2
pins: 1, 2

## LED_2.54mm_G
designator VD?
footprint LED_2.54mm_G
pins: 1, 2

## LED_2.54mm_R
designator VD?
footprint LED_2.54mm_R
pins: 1, 2

## LED_0805_G
designator D?
KP-2012MGC
footprint LED_0805_G
pins: 1, 2

## LED_FYL-3014GD1A
designator VD?
footprint LED_ FYL-3014GD1A
pins: 1, 2

## LM1117IMP-ADJ/NOPB
designator D?
footprint NCP1117_SOT223
pins: 1 ADJ (in), 2 OUT (power), 3 IN (power)
text: *STU

## LM1117MP-3.3
designator DA?
footprint NCP1117_SOT223
pins: 1 ADJ (in), 2 OUT (power), 3 IN (power)
text: *STU

## LM1117MP-5.0
designator DA?
footprint NCP1117_SOT223
pins: 1 ADJ (in), 2 OUT (power), 3 IN (power)
text: *STU

## MCP3208
designator DA?
MCP3208-CI/SL
footprint MCP3208_SOIC16 (SOIC, 16-Leads, Body 9,91x3,90mm, Pitch 1,27mm, IPC Medium Density)
pins: 1 CH0 (in), 2 CH1 (in), 3 CH2 (in), 4 CH3 (in), 5 CH4 (in), 6 CH5 (in), 7 CH6 (in), 8 CH7 (in), 9 DGND (power), 10 ~{CS}/SHDN (in), 11 DIN (in), 12 DOUT (out), 13 CLK (in), 14 AGND (power), 15 VREF (in), 16 VDD (power)
text: ADC

## MCP4922
designator DA?
MCP4922-E/SL
footprint MCP4922_SOIC14
pins: 1 VDD (power), 2 NC, 3 !CS (in), 4 SCK (in), 5 SDI (in), 6 NC, 7 NC, 8 ~{LDAC} (in), 9 ~{SHDN} (in), 10 VOUTB (out), 11 VREFB (in), 12 AVss (power), 13 VREFA (in), 14 VOUTA (out)
text: DAC

## MOSFET_P
designator Q?  (value not drawn)

## NCP1117
designator D?
footprint NCP1117_SOT223
pins: 1 ADJ (in), 2 OUT (power), 3 IN (power)
text: *STU

## NCP3063B
designator DA?  (value not drawn)
footprint SOIC8 (SOIC, 8-Leads, Body 4,90x3,90mm, Pitch 1,27mm, IPC Medium Density)
pins: 1 SC, 2 SE, 3 TC, 4 GND (power), 5 CII, 6 Vcc, 7 ISen, 8 N.C.
text: *STU

## Opto-isolator(LED)
designator U?, comment Diode  (value not drawn)
pins: 1, 2, 3, 4

## Opto-isolator(NPN)
designator U?, comment Photo-Transisitor
pins: 1, 1, 2 1, 2, 3

## Opto-isolator_MOC217
designator U?, comment MOC217
footprint MOCD217
pins: 1, 2, 5, 6, 7

## Quartz_32678Hz
designator Z?, comment 32768Hz
footprint Quartz_32768kHz
pins: 1, 2

## Quartz_HC-49U
designator Z?
footprint Quartz_HC-49U (DFN, 4-Leads, Body 3,20x5,00mm, Pitch 3,70mm, IPC Medium Density)
pins: 1, 2

## Quartz_KX-9A
designator Z?
footprint Quartz_KX-9 (DFN, 4-Leads, Body 3,20x5,00mm, Pitch 3,70mm, IPC Medium Density)
pins: 1, 3

## Relay_G2RL-24
designator K?  (value not drawn)
footprint Relay_G2RL-24_MFG (Omron)
pins: 1, 2, 3, 4, 5, 6, 7, 8

## Relay_G5V-1
designator K?  (value not drawn)
G5V-1 12DC
footprint Relay_G5V-1
pins: 1, 2, 5, 6 hidden, 9, 10

## Resistor_0805
designator R?, comment 99k
footprint RESISTOR_SMD0805
pins: 1, 2

## Resistor_2512
designator R?, comment 560k
RC2512FR-07560KL, 1W, 1%
footprint Resistor_2512 (RC series)
pins: 1, 2

## Resistor_2816
designator R?, comment 0.02
WSL2816R0200FEH, 2W, 1%.
footprint Resistor_2816 (VISHAY, 2W)
pins: 1, 2

## Resistor_Variable
designator R?, comment 99k
pins: 1, 2, 3

## STLED316S
designator DD?  (value not drawn)
footprint SO-24 (STLED316S)
pins: 1 DIN/DOUT (io), 2 CLK (in), 3 STB (in), 4 IRQ_N (out), 5 DIG1_LED (out), 6 DIG2 (out), 7 DIG3 (out), 8 DIG4 (out), 9 Vcc (power), 10 DIG5 (out), 11 DIG6 (out), 12 DIG7 (out), 13 SEG8/KS8 (out), 14 SEG7/KS7 (out), 15 SEG6/KS6 (out), 16 SEG5/KS5 (out), 17 GND (power), 18 SEG4/KS4 (out), 19 SEG3/KS3 (out), 20 SEG2/KS2 (out), 21 SEG1/KS1 (out), 22 KEY2, 23 KEY1, 24 ISET
text: 7SEG

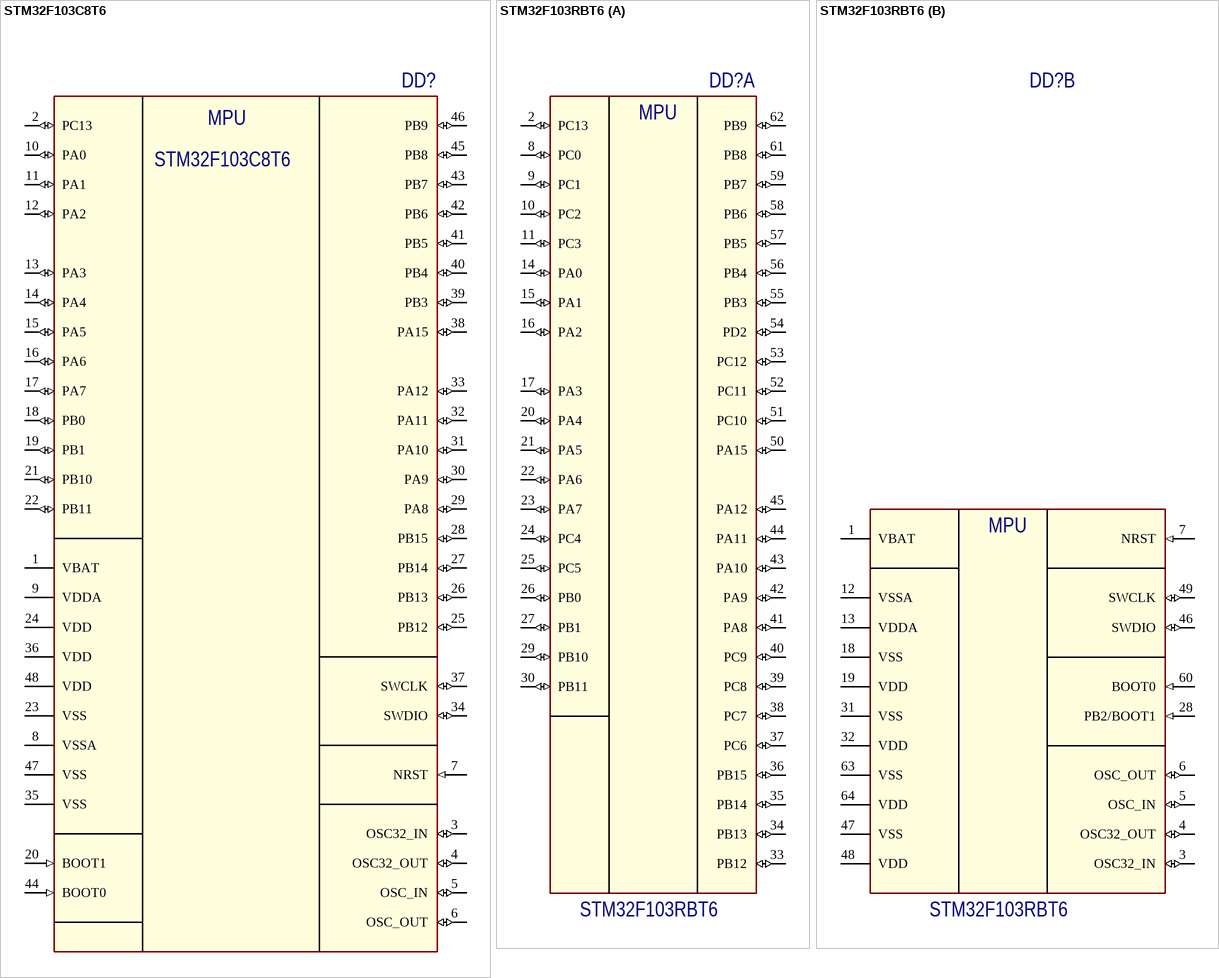
[diagram p8: symbols STM32F103C8T6 to STM32F103RBT6]

## STM32F103C8T6
designator DD?  (value not drawn)
footprint LQFP48 (STM32F103C8T6)
pins: 1 VBAT (power), 2 PC13 (io), 3 OSC32_IN (io), 4 OSC32_OUT (io), 5 OSC_IN (io), 6 OSC_OUT (io), 7 NRST (in), 8 VSSA (power), 9 VDDA (power), 10 PA0 (io), 11 PA1 (io), 12 PA2 (io), 13 PA3 (io), 14 PA4 (io), 15 PA5 (io), 16 PA6 (io), 17 PA7 (io), 18 PB0 (io), 19 PB1 (io), 20 BOOT1 (in), 21 PB10 (io), 22 PB11 (io), 23 VSS (power), 24 VDD (power), 25 PB12 (io), 26 PB13 (io), 27 PB14 (io), 28 PB15 (io), 29 PA8 (io), 30 PA9 (io), 31 PA10 (io), 32 PA11 (io), 33 PA12 (io), 34 SWDIO (io), 35 VSS (power), 36 VDD (power), 37 SWCLK (io), 38 PA15 (io), 39 PB3 (io), 40 PB4 (io), 41 PB5 (io), 42 PB6 (io), 43 PB7 (io), 44 BOOT0 (in), 45 PB8 (io), 46 PB9 (io), 47 VSS (power), 48 VDD (power)
text: MPU

## STM32F103RBT6
designator DD?  (value not drawn)
footprint STM32F103RBT6_LQFP64 (TSQFP, 64-Leads, Body 10,00x10,00mm, Pitch 0,50mm, IPC Medium Density)
part A pins: 2 PC13 (io), 8 PC0 (io), 9 PC1 (io), 10 PC2 (io), 11 PC3 (io), 14 PA0 (io), 15 PA1 (io), 16 PA2 (io), 17 PA3 (io), 20 PA4 (io), 21 PA5 (io), 22 PA6 (io), 23 PA7 (io), 24 PC4 (io), 25 PC5 (io), 26 PB0 (io), 27 PB1 (io), 29 PB10 (io), 30 PB11 (io), 33 PB12 (io), 34 PB13 (io), 35 PB14 (io), 36 PB15 (io), 37 PC6 (io), 38 PC7 (io), 39 PC8 (io), 40 PC9 (io), 41 PA8 (io), 42 PA9 (io), 43 PA10 (io), 44 PA11 (io), 45 PA12 (io), 50 PA15 (io), 51 PC10 (io), 52 PC11 (io), 53 PC12 (io), 54 PD2 (io), 55 PB3 (io), 56 PB4 (io), 57 PB5 (io), 58 PB6 (io), 59 PB7 (io), 61 PB8 (io), 62 PB9 (io)
part B pins: 1 VBAT (power), 3 OSC32_IN (io), 4 OSC32_OUT (io), 5 OSC_IN (io), 6 OSC_OUT (io), 7 NRST (in), 12 VSSA (power), 13 VDDA (power), 18 VSS (power), 19 VDD (power), 28 PB2/BOOT1 (in), 31 VSS (power), 32 VDD (power), 46 SWDIO (io), 47 VSS (power), 48 VDD (power), 49 SWCLK (io), 60 BOOT0 (in), 63 VSS (power), 64 VDD (power)
part A text: MPU
part B text: MPU

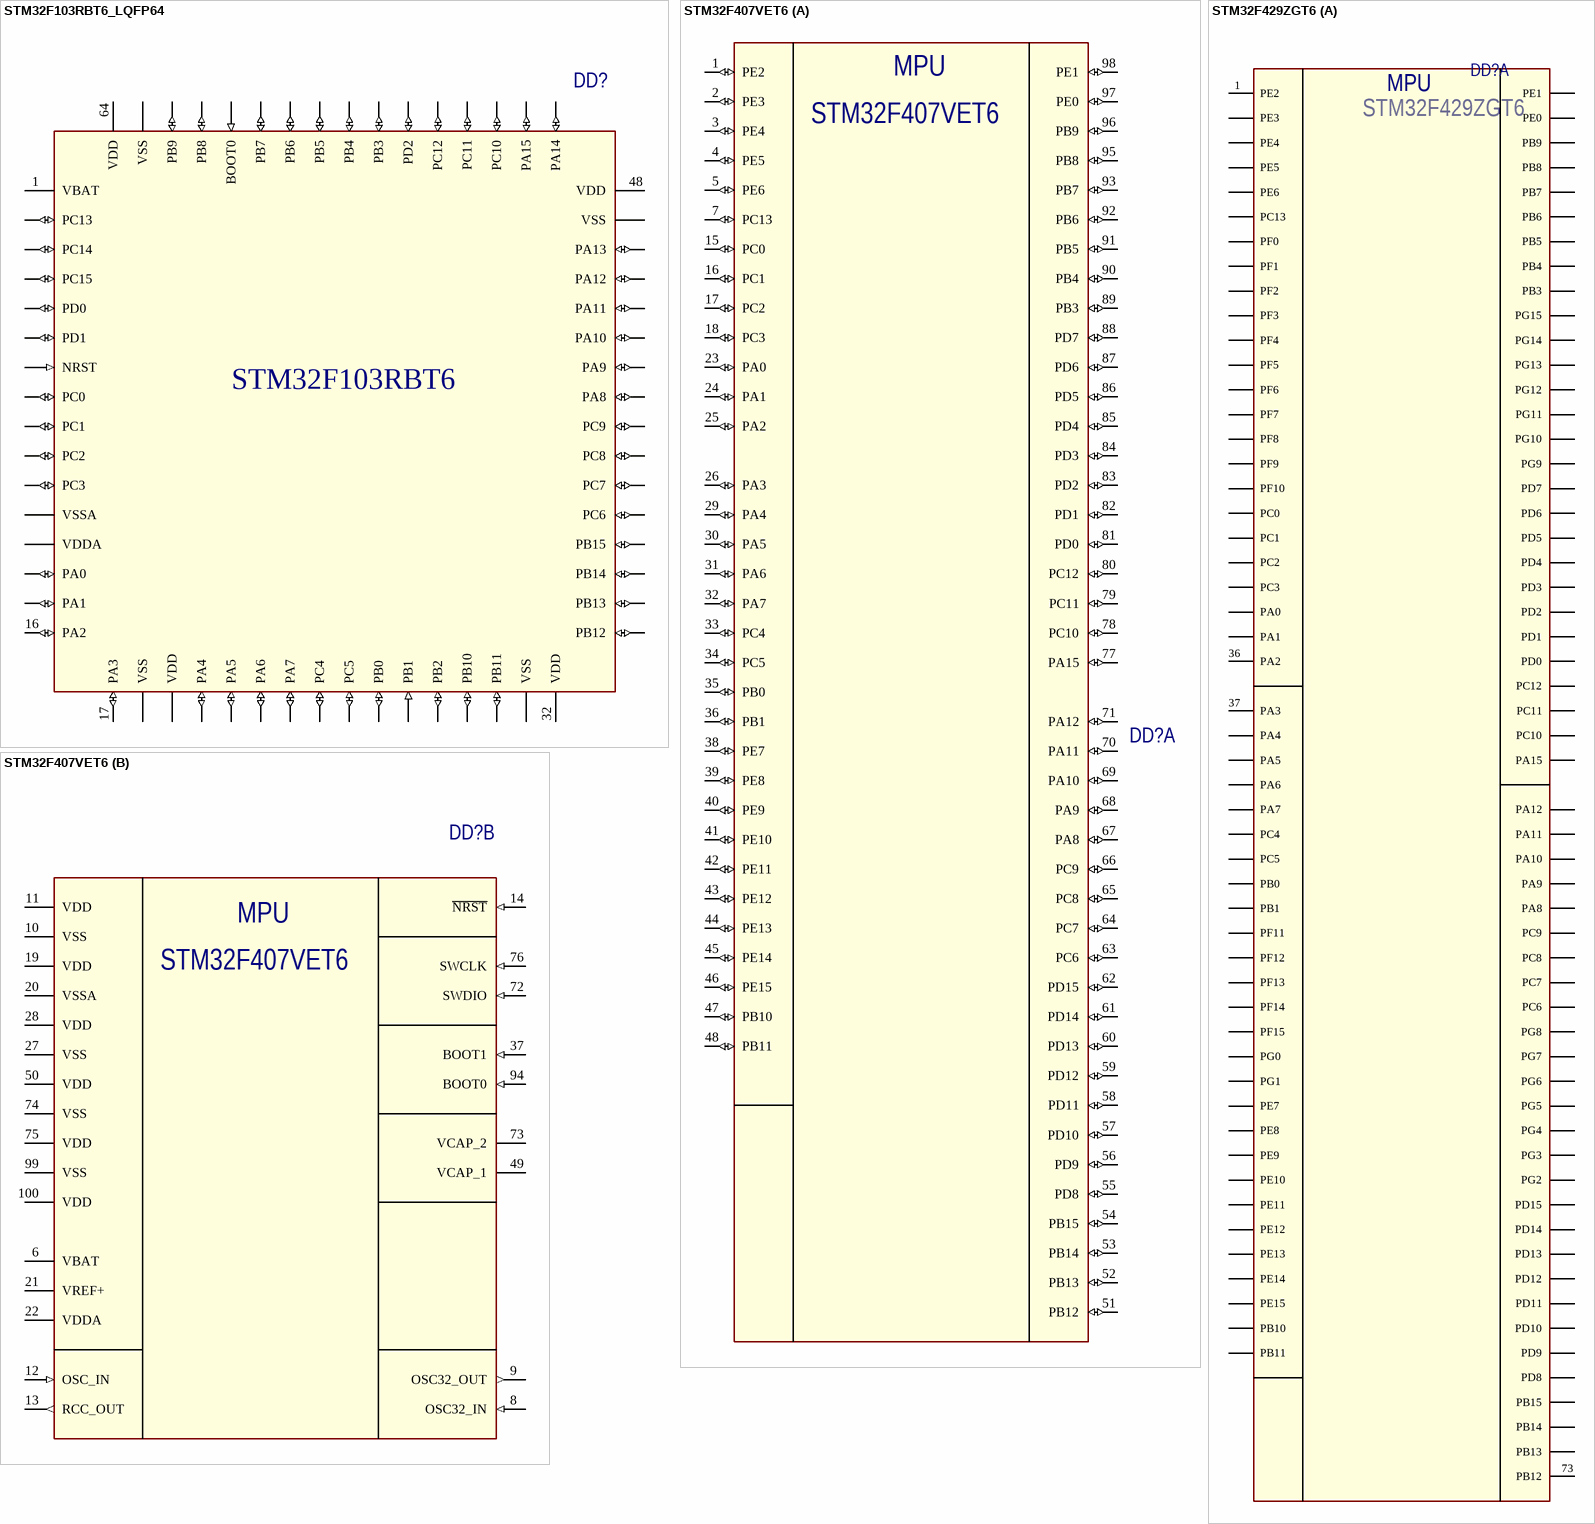
[diagram p9: symbols STM32F103RBT6_LQFP64 to STM32F429ZGT6]

## STM32F103RBT6_LQFP64
designator DD?  (value not drawn)
footprint STM32F103RBT6_LQFP64 (TSQFP, 64-Leads, Body 10,00x10,00mm, Pitch 0,50mm, IPC Medium Density)
pins: 1 VBAT (power), 2 PC13 (io), 3 PC14 (io), 4 PC15 (io), 5 PD0 (io), 6 PD1 (io), 7 NRST (in), 8 PC0 (io), 9 PC1 (io), 10 PC2 (io), 11 PC3 (io), 12 VSSA (power), 13 VDDA (power), 14 PA0 (io), 15 PA1 (io), 16 PA2 (io), 17 PA3 (io), 18 VSS (power), 19 VDD (power), 20 PA4 (io), 21 PA5 (io), 22 PA6 (io), 23 PA7 (io), 24 PC4 (io), 25 PC5 (io), 26 PB0 (io), 27 PB1 (in), 28 PB2 (io), 29 PB10 (io), 30 PB11 (io), 31 VSS (power), 32 VDD (power), 33 PB12 (io), 34 PB13 (io), 35 PB14 (io), 36 PB15 (io), 37 PC6 (io), 38 PC7 (io), 39 PC8 (io), 40 PC9 (io), 41 PA8 (io), 42 PA9 (io), 43 PA10 (io), 44 PA11 (io), 45 PA12 (io), 46 PA13 (io), 47 VSS (power), 48 VDD (power), 49 PA14 (io), 50 PA15 (io), 51 PC10 (io), 52 PC11 (io), 53 PC12 (io), 54 PD2 (io), 55 PB3 (io), 56 PB4 (io), 57 PB5 (io), 58 PB6 (io), 59 PB7 (io), 60 BOOT0 (in), 61 PB8 (io), 62 PB9 (io), 63 VSS (power), 64 VDD (power)
text: STM32F103RBT6

## STM32F407VET6
designator DD?  (value not drawn)
footprint STM32F407VET6_LQFP100_V (Thin QFP, 100-Leads, Body 14x14mm, Pitch 0.5mm, ST Recommended)
part A pins: 1 PE2 (io), 2 PE3 (io), 3 PE4 (io), 4 PE5 (io), 5 PE6 (io), 7 PC13 (io), 15 PC0 (io), 16 PC1 (io), 17 PC2 (io), 18 PC3 (io), 23 PA0 (io), 24 PA1 (io), 25 PA2 (io), 26 PA3 (io), 29 PA4 (io), 30 PA5 (io), 31 PA6 (io), 32 PA7 (io), 33 PC4 (io), 34 PC5 (io), 35 PB0 (io), 36 PB1 (io), 38 PE7 (io), 39 PE8 (io), 40 PE9 (io), 41 PE10 (io), 42 PE11 (io), 43 PE12 (io), 44 PE13 (io), 45 PE14 (io), 46 PE15 (io), 47 PB10 (io), 48 PB11 (io), 51 PB12 (io), 52 PB13 (io), 53 PB14 (io), 54 PB15 (io), 55 PD8 (io), 56 PD9 (io), 57 PD10 (io), 58 PD11 (io), 59 PD12 (io), 60 PD13 (io), 61 PD14 (io), 62 PD15 (io), 63 PC6 (io), 64 PC7 (io), 65 PC8 (io), 66 PC9 (io), 67 PA8 (io), 68 PA9 (io), 69 PA10 (io), 70 PA11 (io), 71 PA12 (io), 77 PA15 (io), 78 PC10 (io), 79 PC11 (io), 80 PC12 (io), 81 PD0 (io), 82 PD1 (io), 83 PD2 (io), 84 PD3 (io), 85 PD4 (io), 86 PD5 (io), 87 PD6 (io), 88 PD7 (io), 89 PB3 (io), 90 PB4 (io), 91 PB5 (io), 92 PB6 (io), 93 PB7 (io), 95 PB8 (io), 96 PB9 (io), 97 PE0 (io), 98 PE1 (io)
part B pins: 6 VBAT (power), 8 OSC32_IN (in), 9 OSC32_OUT (out), 10 VSS (power), 11 VDD (power), 12 OSC_IN (in), 13 RCC_OUT (out), 14 ~{NRST} (in), 19 VDD (power), 20 VSSA (power), 21 VREF+ (power), 22 VDDA (power), 27 VSS (power), 28 VDD (power), 37 BOOT1 (in), 49 VCAP_1, 50 VDD (power), 72 SWDIO (in), 73 VCAP_2, 74 VSS (power), 75 VDD (power), 76 SWCLK (in), 94 BOOT0 (in), 99 VSS (power), 100 VDD (power)
part A text: MPU
part B text: MPU

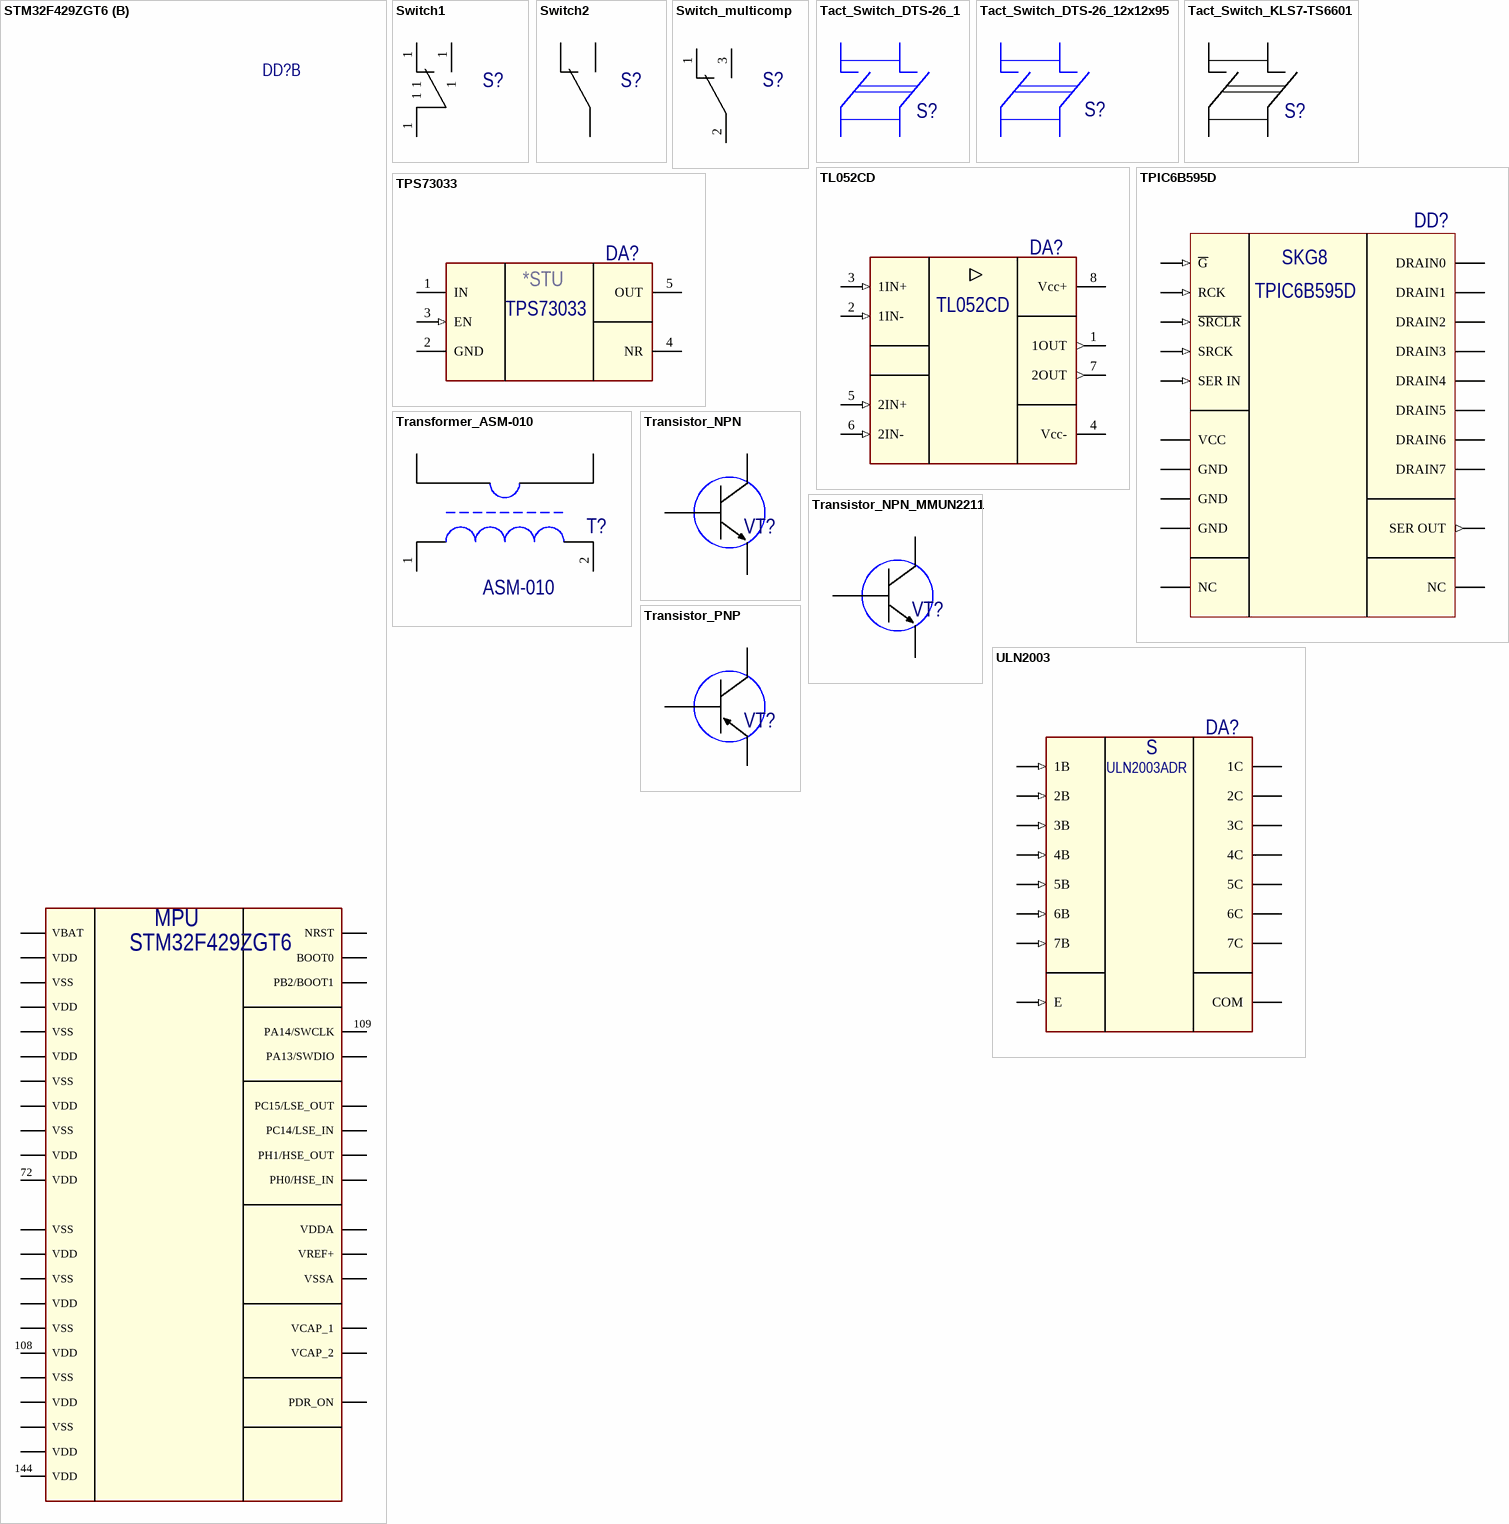
[diagram p10: symbols STM32F429ZGT6 to ULN2003]

## STM32F429ZGT6
designator DD?  (value not drawn)
footprint STM32F429ZGT6_LQFP144 (Thin QFP, 144-Leads, Body 20x20mm, Pitch 0.5mm, IPC Medium Density)
part A pins: 1 PE2, 2 PE3, 3 PE4, 4 PE5, 5 PE6, 7 PC13, 10 PF0, 11 PF1, 12 PF2, 13 PF3, 14 PF4, 15 PF5, 18 PF6, 19 PF7, 20 PF8, 21 PF9, 22 PF10, 26 PC0, 27 PC1, 28 PC2, 29 PC3, 34 PA0, 35 PA1, 36 PA2, 37 PA3, 40 PA4, 41 PA5, 42 PA6, 43 PA7, 44 PC4, 45 PC5, 46 PB0, 47 PB1, 49 PF11, 50 PF12, 53 PF13, 54 PF14, 55 PF15, 56 PG0, 57 PG1, 58 PE7, 59 PE8, 60 PE9, 63 PE10, 64 PE11, 65 PE12, 66 PE13, 67 PE14, 68 PE15, 69 PB10, 70 PB11, 73 PB12, 74 PB13, 75 PB14, 76 PB15, 77 PD8, 78 PD9, 79 PD10, 80 PD11, 81 PD12, 82 PD13, 85 PD14, 86 PD15, 87 PG2, 88 PG3, 89 PG4, 90 PG5, 91 PG6, 92 PG7, 93 PG8, 96 PC6, 97 PC7, 98 PC8, 99 PC9, 100 PA8, 101 PA9, 102 PA10, 103 PA11, 104 PA12, 110 PA15, 111 PC10, 112 PC11, 113 PC12, 114 PD0, 115 PD1, 116 PD2, 117 PD3, 118 PD4, 119 PD5, 122 PD6, 123 PD7, 124 PG9, 125 PG10, 126 PG11, 127 PG12, 128 PG13, 129 PG14, 132 PG15, 133 PB3, 134 PB4, 135 PB5, 136 PB6, 137 PB7, 139 PB8, 140 PB9, 141 PE0, 142 PE1
part B pins: 6 VBAT (power), 8 PC14/LSE_IN, 9 PC15/LSE_OUT, 16 VSS (power), 17 VDD (power), 23 PH0/HSE_IN, 24 PH1/HSE_OUT, 25 NRST, 30 VDD (power), 31 VSSA (power), 32 VREF+ (power), 33 VDDA (power), 38 VSS (power), 39 VDD (power), 48 PB2/BOOT1, 51 VSS (power), 52 VDD (power), 61 VSS (power), 62 VDD (power), 71 VCAP_1 (power), 72 VDD (power), 83 VSS (power), 84 VDD (power), 94 VSS (power), 95 VDD (power), 105 PA13/SWDIO, 106 VCAP_2 (power), 107 VSS (power), 108 VDD (power), 109 PA14/SWCLK, 120 VSS (power), 121 VDD (power), 130 VSS (power), 131 VDD (power), 138 BOOT0, 143 PDR_ON (power), 144 VDD (power)
part A text: MPU
part B text: MPU

## Switch1
designator S?  (value not drawn)
pins: 1, 1, 1

## Switch2
designator S?  (value not drawn)
pins: 1, 2, 3

## Switch_multicomp
designator S?  (value not drawn)
1MS1T2B4VS2RES
footprint Switch_1MS1T2B4VS2RES (multicomp)
pins: 1, 2, 3

## Tact_Switch_DTS-26_1
designator S?, comment Tact_Switch_KLS7-TS6601  (value not drawn)
footprint Tact Switch_DTS-26 (12x12x9.5)
pins: 1, 2, 3, 4

## Tact_Switch_DTS-26_12x12x95
designator S?, comment DTS-26 12x12x9.5  (value not drawn)
footprint Tact Switch_DTS-26_12x12x95 (12x12x9.5)
pins: 1, 2, 3, 4

## Tact_Switch_KLS7-TS6601
designator S?  (value not drawn)
footprint Tact Switch_KLS7-TS6601-7.0-180 6*6*7
pins: 1, 2, 3, 4

## TL052CD
designator DA?  (value not drawn)
footprint AD823_SOIC8
pins: 1 1OUT (out), 2 1IN- (in), 3 1IN+ (in), 4 Vcc- (power), 5 2IN+ (in), 6 2IN- (in), 7 2OUT (out), 8 Vcc+ (power)

## TPIC6B595D
designator DD?  (value not drawn)
footprint SOIC-20
pins: 1 NC, 2 VCC (power), 3 SER IN (in), 4 DRAIN0 (oc), 5 DRAIN1 (oc), 6 DRAIN2 (oc), 7 DRAIN3 (oc), 8 ~{SRCLR} (in), 9 ~{G} (in), 10 GND (power), 11 GND (power), 12 RCK (in), 13 SRCK (in), 14 DRAIN4 (oc), 15 DRAIN5 (oc), 16 DRAIN6 (oc), 17 DRAIN7 (oc), 18 SER OUT (out), 19 GND (power), 20 NC
text: SKG8

## TPS73033
designator DA?
footprint SOT23-5pin
pins: 1 IN (power), 2 GND (power), 3 EN (in), 4 NR (power), 5 OUT (power)
text: *STU

## Transformer_ASM-010
designator T?, comment ASM-010
pins: 1, 2, 3, 4

## Transistor_NPN
designator VT?  (value not drawn)
footprint MUN2111 (SOT23)
pins: 1, 2, 3

## Transistor_NPN_MMUN2211
designator VT?, comment Transistor_NPN  (value not drawn)
footprint SOT-23 (MUN2211)
pins: 1 B, 2 E, 3 C

## Transistor_PNP
designator VT?  (value not drawn)
footprint MUN2111 (SOT23)
pins: 1, 2, 3

## ULN2003
designator DA?  (value not drawn)
footprint MCP3208_SOIC16 (SOIC, 16-Leads, Body 9,91x3,90mm, Pitch 1,27mm, IPC Medium Density)
pins: 1 1B (in), 2 2B (in), 3 3B (in), 4 4B (in), 5 5B (in), 6 6B (in), 7 7B (in), 8 E (in), 9 COM (power), 10 7C (oc), 11 6C (oc), 12 5C (oc), 13 4C (oc), 14 3C (oc), 15 2C (oc), 16 1C (oc)
text: S; ULN2003ADR